# Altium integrated library Altera APEX 20KE.IntLib: 235 symbols (part 7 of 49)
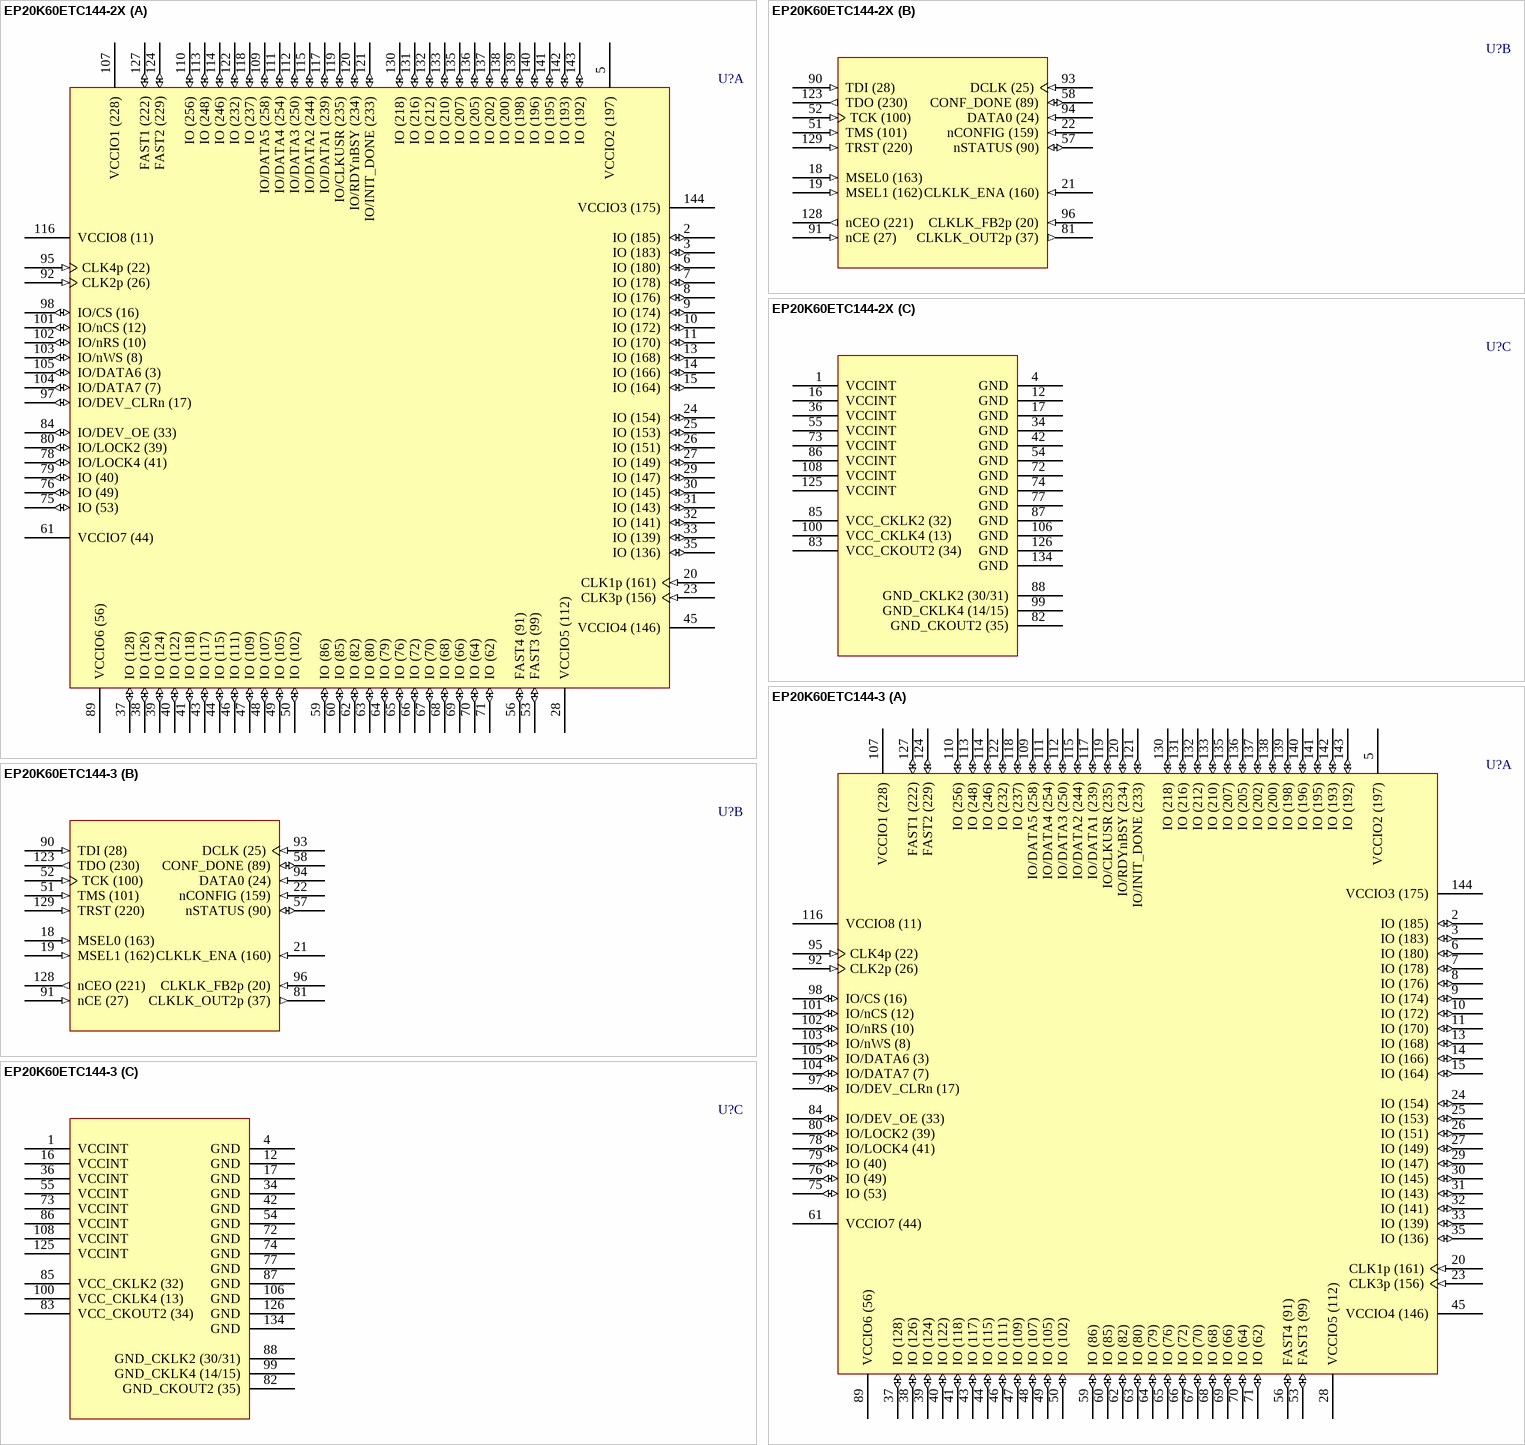
[diagram p405: symbols EP20K60ETC144-2X to EP20K60ETC144-3]

## EP20K60ETC144-3
designator U?
APEX 20K60E PLD, 144-Pin TQFP, Commercial Grade, Speed Grade 3; Published: 17-Jul-2002; LatestRevisionDate: 13-Apr-2006; LatestRevisionNote: IPC-7351 Footprint Added.; DatasheetVersion: Mar-2004; PackageVersion: ver15.4, Dec-2008; PackageReference: TQFP144; Publisher: Altium Limited; PackageDescription: 144-Pin Plastic Thin Quad Flat Pack (TQFP144) - Wire Bond; Supplier 1: Farnell; Supplier Part Number 1: 1570011; Code_JEDEC: MS-026-BFB; ComponentLink1Description: Manufacturer Link; ComponentLink1URL: http://www.altera.com/products/devices/apex/apx-index.html; ComponentLink2Description: Datasheet; ComponentLink2URL: http://www.altera.com/literature/ds/apex.pdf
footprint TQFP144_N (Thin QFP, 144-Leads, Body 20x20mm, Pitch 0.5mm, IPC Medium Density)
footprint TQFP144_L (Thin QFP, 144-Leads, Body 20x20mm, Pitch 0.5mm, IPC High Density)
footprint TQFP144_M (Thin QFP, 144-Leads, Body 20x20mm, Pitch 0.5mm, IPC Low Density)
3D model EP20K60E-TQFP144 (144-Pin Plastic Thin Quad Flat Pack (TQFP144) - Wire Bond)
part A pins: 2 IO (185) (io), 3 IO (183) (io), 5 VCCIO2 (197) (power), 6 IO (180) (io), 7 IO (178) (io), 8 IO (176) (io), 9 IO (174) (io), 10 IO (172) (io), 11 IO (170) (io), 13 IO (168) (io), 14 IO (166) (io), 15 IO (164) (io), 20 CLK1p (161) (in), 23 CLK3p (156) (in), 24 IO (154) (io), 25 IO (153) (io), 26 IO (151) (io), 27 IO (149) (io), 28 VCCIO5 (112) (power), 29 IO (147) (io), 30 IO (145) (io), 31 IO (143) (io), 32 IO (141) (io), 33 IO (139) (io), 35 IO (136) (io), 37 IO (128) (io), 38 IO (126) (io), 39 IO (124) (io), 40 IO (122) (io), 41 IO (118) (io), 43 IO (117) (io), 44 IO (115) (io), 45 VCCIO4 (146) (power), 46 IO (111) (io), 47 IO (109) (io), 48 IO (107) (io), 49 IO (105) (io), 50 IO (102) (io), 53 FAST3 (99) (io), 56 FAST4 (91) (io), 59 IO (86) (io), 60 IO (85) (io), 61 VCCIO7 (44) (power), 62 IO (82) (io), 63 IO (80) (io), 64 IO (79) (io), 65 IO (76) (io), 66 IO (72) (io), 67 IO (70) (io), 68 IO (68) (io), 69 IO (66) (io), 70 IO (64) (io), 71 IO (62) (io), 75 IO (53) (io), 76 IO (49) (io), 78 IO/LOCK4 (41) (io), 79 IO (40) (io), 80 IO/LOCK2 (39) (io), 84 IO/DEV_OE (33) (io), 89 VCCIO6 (56) (power), 92 CLK2p (26) (in), 95 CLK4p (22) (in), 97 IO/DEV_CLRn (17) (io), 98 IO/CS (16) (io), 101 IO/nCS (12) (io), 102 IO/nRS (10) (io), 103 IO/nWS (8) (io), 104 IO/DATA7 (7) (io), 105 IO/DATA6 (3) (io), 107 VCCIO1 (228) (power), 109 IO/DATA5 (258) (io), 110 IO (256) (io), 111 IO/DATA4 (254) (io), 112 IO/DATA3 (250) (io), 113 IO (248) (io), 114 IO (246) (io), 115 IO/DATA2 (244) (io), 116 VCCIO8 (11) (power), 117 IO/DATA1 (239) (io), 118 IO (237) (io), 119 IO/CLKUSR (235) (io), 120 IO/RDYnBSY (234) (io), 121 IO/INIT_DONE (233) (io), 122 IO (232) (io), 124 FAST2 (229) (io), 127 FAST1 (222) (io), 130 IO (218) (io), 131 IO (216) (io), 132 IO (212) (io), 133 IO (210) (io), 135 IO (207) (io), 136 IO (205) (io), 137 IO (202) (io), 138 IO (200) (io), 139 IO (198) (io), 140 IO (196) (io), 141 IO (195) (io), 142 IO (193) (io), 143 IO (192) (io), 144 VCCIO3 (175) (power)
part B pins: 18 MSEL0 (163) (in), 19 MSEL1 (162) (in), 21 CLKLK_ENA (160) (in), 22 nCONFIG (159) (in), 51 TMS (101) (in), 52 TCK (100) (in), 57 nSTATUS (90) (io), 58 CONF_DONE (89) (io), 81 CLKLK_OUT2p (37) (out), 90 TDI (28) (in), 91 nCE (27) (in), 93 DCLK (25) (in), 94 DATA0 (24) (in), 96 CLKLK_FB2p (20) (in), 123 TDO (230) (out), 128 nCEO (221) (out), 129 TRST (220) (in)
part C pins: 1 VCCINT (power), 4 GND (power), 12 GND (power), 16 VCCINT (power), 17 GND (power), 34 GND (power), 36 VCCINT (power), 42 GND (power), 54 GND (power), 55 VCCINT (power), 72 GND (power), 73 VCCINT (power), 74 GND (power), 77 GND (power), 82 GND_CKOUT2 (35) (power), 83 VCC_CKOUT2 (34) (power), 85 VCC_CKLK2 (32) (power), 86 VCCINT (power), 87 GND (power), 88 GND_CKLK2 (30/31) (power), 99 GND_CKLK4 (14/15) (power), 100 VCC_CKLK4 (13) (power), 106 GND (power), 108 VCCINT (power), 125 VCCINT (power), 126 GND (power), 134 GND (power)

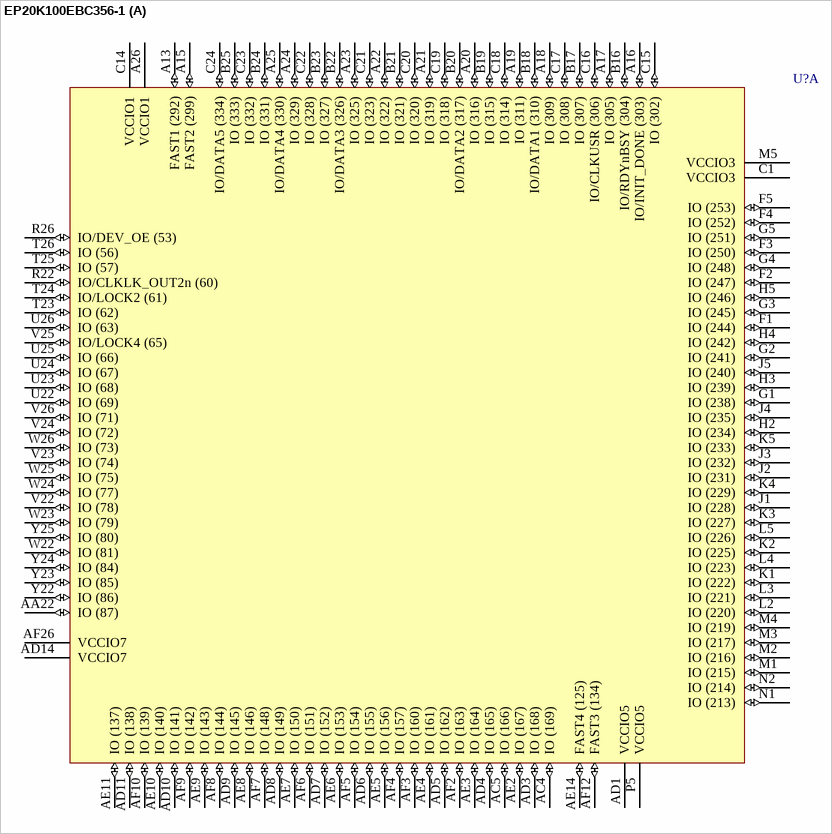
[diagram p66: symbol EP20K100EBC356-1]

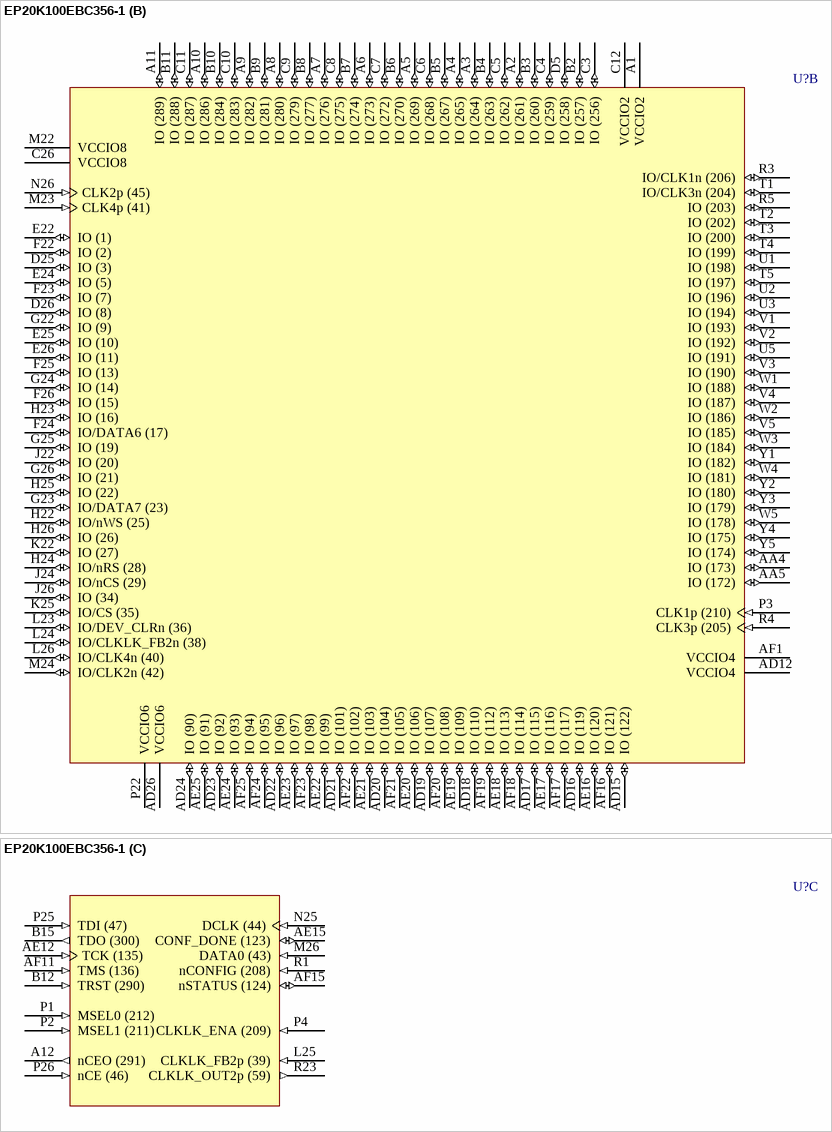
[diagram p67: symbol EP20K100EBC356-1]

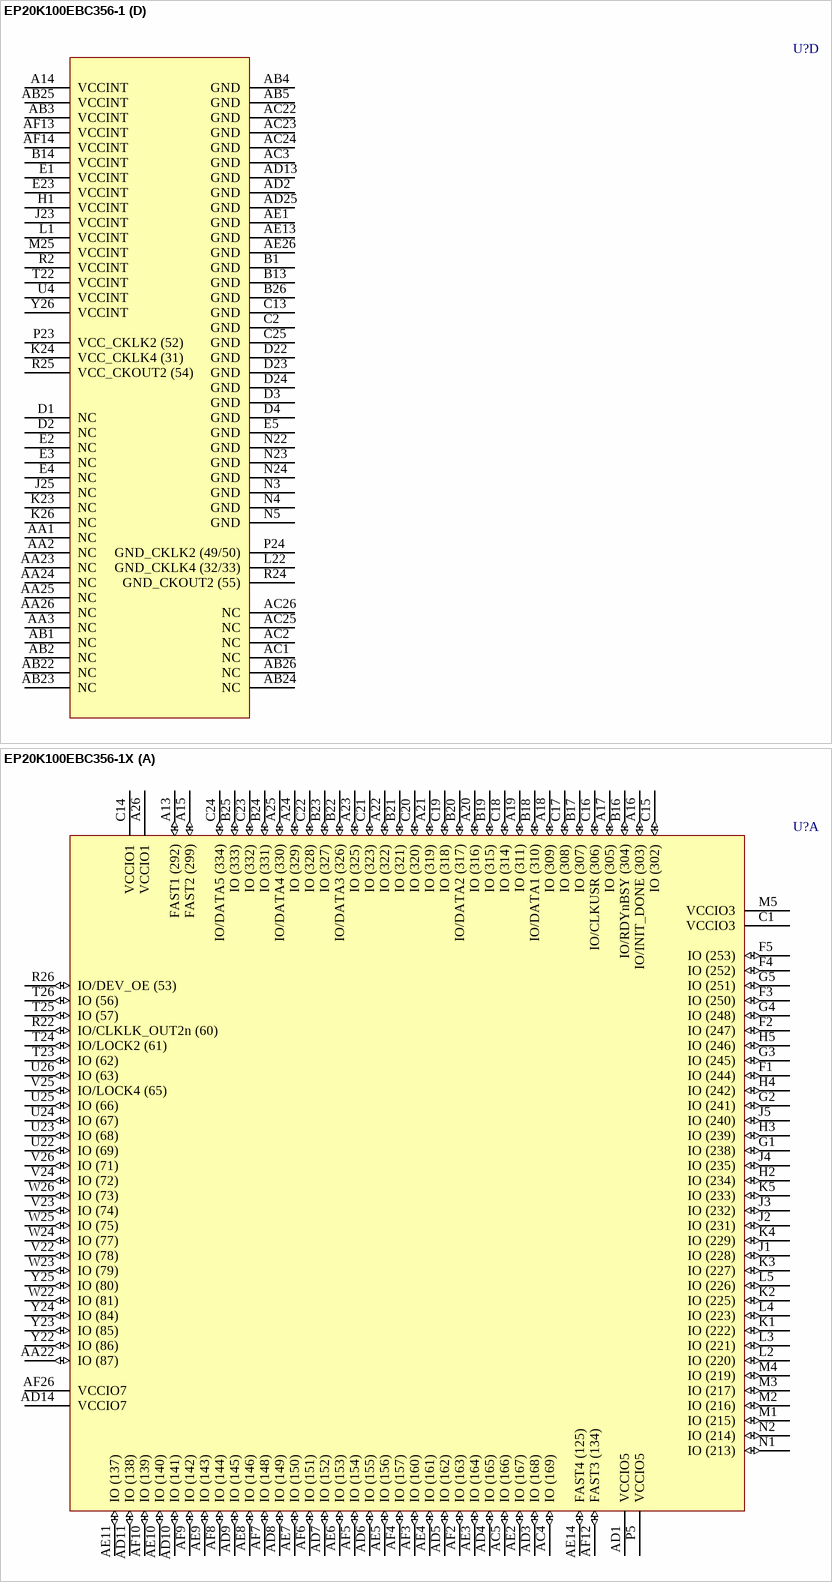
[diagram p68: symbols EP20K100EBC356-1 to EP20K100EBC356-1X]

## EP20K100EBC356-1
designator U?
APEX 20K100E PLD, 356-Pin BGA, Commercial Grade, Speed Grade 1; Published: 17-Jul-2002; LatestRevisionDate: 13-Apr-2006; LatestRevisionNote: IPC-7351 Footprint Added.; DatasheetVersion: Mar-2004; PackageVersion: ver14.2, Oct-2005; PackageReference: BGA356; Publisher: Altium Limited; PackageDescription: 356-Ball Ball Grid Array (BGA356); Code_JEDEC: MO-192-BAR-2; ComponentLink1Description: Manufacturer Link; ComponentLink1URL: http://www.altera.com/products/devices/apex/apx-index.html; ComponentLink2Description: Datasheet; ComponentLink2URL: http://www.altera.com/literature/ds/apex.pdf
footprint BGA356 (BGA, 356-Leads, Body 35x35mm, Pitch 1.27mm)
3D model EP20K100E-BGA356 (356-Ball Ball Grid Array (BGA356))
part A pins: A13 FAST1 (292) (io), A15 FAST2 (299) (io), A16 IO/INIT_DONE (303) (io), A17 IO (305) (io), A18 IO (309) (io), A19 IO (311) (io), A20 IO (316) (io), A21 IO (319) (io), A22 IO (322) (io), A23 IO (325) (io), A24 IO (329) (io), A25 IO/DATA4 (330) (io), A26 VCCIO1 (power), AA22 IO (87) (io), AC4 IO (169) (io), AC5 IO (166) (io), AD1 VCCIO5 (power), AD3 IO (168) (io), AD4 IO (165) (io), AD5 IO (162) (io), AD6 IO (155) (io), AD7 IO (152) (io), AD8 IO (149) (io), AD9 IO (145) (io), AD10 IO (141) (io), AD11 IO (138) (io), AD14 VCCIO7 (power), AE2 IO (167) (io), AE3 IO (164) (io), AE4 IO (161) (io), AE5 IO (156) (io), AE6 IO (153) (io), AE7 IO (150) (io), AE8 IO (146) (io), AE9 IO (143) (io), AE10 IO (140) (io), AE11 IO (137) (io), AE14 FAST4 (125) (io), AF2 IO (163) (io), AF3 IO (160) (io), AF4 IO (157) (io), AF5 IO (154) (io), AF6 IO (151) (io), AF7 IO (148) (io), AF8 IO (144) (io), AF9 IO (142) (io), AF10 IO (139) (io), AF12 FAST3 (134) (io), AF26 VCCIO7 (power), B16 IO/RDYnBSY (304) (io), B17 IO (307) (io), B18 IO/DATA1 (310) (io), B19 IO (315) (io), B20 IO/DATA2 (317) (io), B21 IO (321) (io), B22 IO/DATA3 (326) (io), B23 IO (327) (io), B24 IO (331) (io), B25 IO (333) (io), C1 VCCIO3 (power), C14 VCCIO1 (power), C15 IO (302) (io), C16 IO/CLKUSR (306) (io), C17 IO (308) (io), C18 IO (314) (io), C19 IO (318) (io), C20 IO (320) (io), C21 IO (323) (io), C22 IO (328) (io), C23 IO (332) (io), C24 IO/DATA5 (334) (io), F1 IO (244) (io), F2 IO (247) (io), F3 IO (250) (io), F4 IO (252) (io), F5 IO (253) (io), G1 IO (238) (io), G2 IO (241) (io), G3 IO (245) (io), G4 IO (248) (io), G5 IO (251) (io), H2 IO (234) (io), H3 IO (239) (io), H4 IO (242) (io), H5 IO (246) (io), J1 IO (228) (io), J2 IO (231) (io), J3 IO (232) (io), J4 IO (235) (io), J5 IO (240) (io), K1 IO (222) (io), K2 IO (225) (io), K3 IO (227) (io), K4 IO (229) (io), K5 IO (233) (io), L2 IO (220) (io), L3 IO (221) (io), L4 IO (223) (io), L5 IO (226) (io), M1 IO (215) (io), M2 IO (216) (io), M3 IO (217) (io), M4 IO (219) (io), M5 VCCIO3 (power), N1 IO (213) (io), N2 IO (214) (io), P5 VCCIO5 (power), R22 IO/CLKLK_OUT2n (60) (io), R26 IO/DEV_OE (53) (io), T23 IO (62) (io), T24 IO/LOCK2 (61) (io), T25 IO (57) (io), T26 IO (56) (io), U22 IO (69) (io), U23 IO (68) (io), U24 IO (67) (io), U25 IO (66) (io), U26 IO (63) (io), V22 IO (78) (io), V23 IO (74) (io), V24 IO (72) (io), V25 IO/LOCK4 (65) (io), V26 IO (71) (io), W22 IO (81) (io), W23 IO (79) (io), W24 IO (77) (io), W25 IO (75) (io), W26 IO (73) (io), Y22 IO (86) (io), Y23 IO (85) (io), Y24 IO (84) (io), Y25 IO (80) (io)
part B pins: A1 VCCIO2 (power), A2 IO (261) (io), A3 IO (264) (io), A4 IO (265) (io), A5 IO (269) (io), A6 IO (273) (io), A7 IO (276) (io), A8 IO (280) (io), A9 IO (282) (io), A10 IO (286) (io), A11 IO (289) (io), AA4 IO (173) (io), AA5 IO (172) (io), AD12 VCCIO4 (power), AD15 IO (122) (io), AD16 IO (119) (io), AD17 IO (115) (io), AD18 IO (110) (io), AD19 IO (107) (io), AD20 IO (104) (io), AD21 IO (101) (io), AD22 IO (96) (io), AD23 IO (92) (io), AD24 IO (90) (io), AD26 VCCIO6 (power), AE16 IO (120) (io), AE17 IO (116) (io), AE18 IO (113) (io), AE19 IO (109) (io), AE20 IO (106) (io), AE21 IO (103) (io), AE22 IO (99) (io), AE23 IO (97) (io), AE24 IO (93) (io), AE25 IO (91) (io), AF1 VCCIO4 (power), AF16 IO (121) (io), AF17 IO (117) (io), AF18 IO (114) (io), AF19 IO (112) (io), AF20 IO (108) (io), AF21 IO (105) (io), AF22 IO (102) (io), AF23 IO (98) (io), AF24 IO (95) (io), AF25 IO (94) (io), B2 IO (257) (io), B3 IO (260) (io), B4 IO (263) (io), B5 IO (267) (io), B6 IO (270) (io), B7 IO (274) (io), B8 IO (277) (io), B9 IO (281) (io), B10 IO (284) (io), B11 IO (288) (io), C3 IO (256) (io), C4 IO (259) (io), C5 IO (262) (io), C6 IO (268) (io), C7 IO (272) (io), C8 IO (275) (io), C9 IO (279) (io), C10 IO (283) (io), C11 IO (287) (io), C12 VCCIO2 (power), C26 VCCIO8 (power), D5 IO (258) (io), D25 IO (3) (io), D26 IO (8) (io), E22 IO (1) (io), E24 IO (5) (io), E25 IO (10) (io), E26 IO (11) (io), F22 IO (2) (io), F23 IO (7) (io), F24 IO/DATA6 (17) (io), F25 IO (13) (io), F26 IO (15) (io), G22 IO (9) (io), G23 IO/DATA7 (23) (io), G24 IO (14) (io), G25 IO (19) (io), G26 IO (21) (io), H22 IO/nWS (25) (io), H23 IO (16) (io), H24 IO/nRS (28) (io), H25 IO (22) (io), H26 IO (26) (io), J22 IO (20) (io), J24 IO/nCS (29) (io), J26 IO (34) (io), K22 IO (27) (io), K25 IO/CS (35) (io), L23 IO/DEV_CLRn (36) (io), L24 IO/CLKLK_FB2n (38) (io), L26 IO/CLK4n (40) (io), M22 VCCIO8 (power), M23 CLK4p (41) (in), M24 IO/CLK2n (42) (io), N26 CLK2p (45) (in), P3 CLK1p (210) (in), P22 VCCIO6 (power), R3 IO/CLK1n (206) (io), R4 CLK3p (205) (in), R5 IO (203) (io), T1 IO/CLK3n (204) (io), T2 IO (202) (io), T3 IO (200) (io), T4 IO (199) (io), T5 IO (197) (io), U1 IO (198) (io), U2 IO (196) (io), U3 IO (194) (io), U5 IO (191) (io), V1 IO (193) (io), V2 IO (192) (io), V3 IO (190) (io), V4 IO (187) (io), V5 IO (185) (io), W1 IO (188) (io), W2 IO (186) (io), W3 IO (184) (io), W4 IO (181) (io), W5 IO (178) (io), Y1 IO (182) (io), Y2 IO (180) (io), Y3 IO (179) (io), Y4 IO (175) (io), Y5 IO (174) (io)
part C pins: A12 nCEO (291) (out), AE12 TCK (135) (in), AE15 CONF_DONE (123) (io), AF11 TMS (136) (in), AF15 nSTATUS (124) (io), B12 TRST (290) (in), B15 TDO (300) (out), L25 CLKLK_FB2p (39) (in), M26 DATA0 (43) (in), N25 DCLK (44) (in), P1 MSEL0 (212) (in), P2 MSEL1 (211) (in), P4 CLKLK_ENA (209) (in), P25 TDI (47) (in), P26 nCE (46) (in), R1 nCONFIG (208) (in), R23 CLKLK_OUT2p (59) (out)
part D pins: A14 VCCINT (power), AA1 NC, AA2 NC, AA3 NC, AA23 NC, AA24 NC, AA25 NC, AA26 NC, AB1 NC, AB2 NC, AB3 VCCINT (power), AB4 GND (power), AB5 GND (power), AB22 NC, AB23 NC, AB24 NC, AB25 VCCINT (power), AB26 NC, AC1 NC, AC2 NC, AC3 GND (power), AC22 GND (power), AC23 GND (power), AC24 GND (power), AC25 NC, AC26 NC, AD2 GND (power), AD13 GND (power), AD25 GND (power), AE1 GND (power), AE13 GND (power), AE26 GND (power), AF13 VCCINT (power), AF14 VCCINT (power), B1 GND (power), B13 GND (power), B14 VCCINT (power), B26 GND (power), C2 GND (power), C13 GND (power), C25 GND (power), D1 NC, D2 NC, D3 GND (power), D4 GND (power), D22 GND (power), D23 GND (power), D24 GND (power), E1 VCCINT (power), E2 NC, E3 NC, E4 NC, E5 GND (power), E23 VCCINT (power), H1 VCCINT (power), J23 VCCINT (power), J25 NC, K23 NC, K24 VCC_CKLK4 (31) (power), K26 NC, L1 VCCINT (power), L22 GND_CKLK4 (32/33) (power), M25 VCCINT (power), N3 GND (power), N4 GND (power), N5 GND (power), N22 GND (power), N23 GND (power), N24 GND (power), P23 VCC_CKLK2 (52) (power), P24 GND_CKLK2 (49/50) (power), R2 VCCINT (power), R24 GND_CKOUT2 (55) (power), R25 VCC_CKOUT2 (54) (power), T22 VCCINT (power), U4 VCCINT (power), Y26 VCCINT (power)

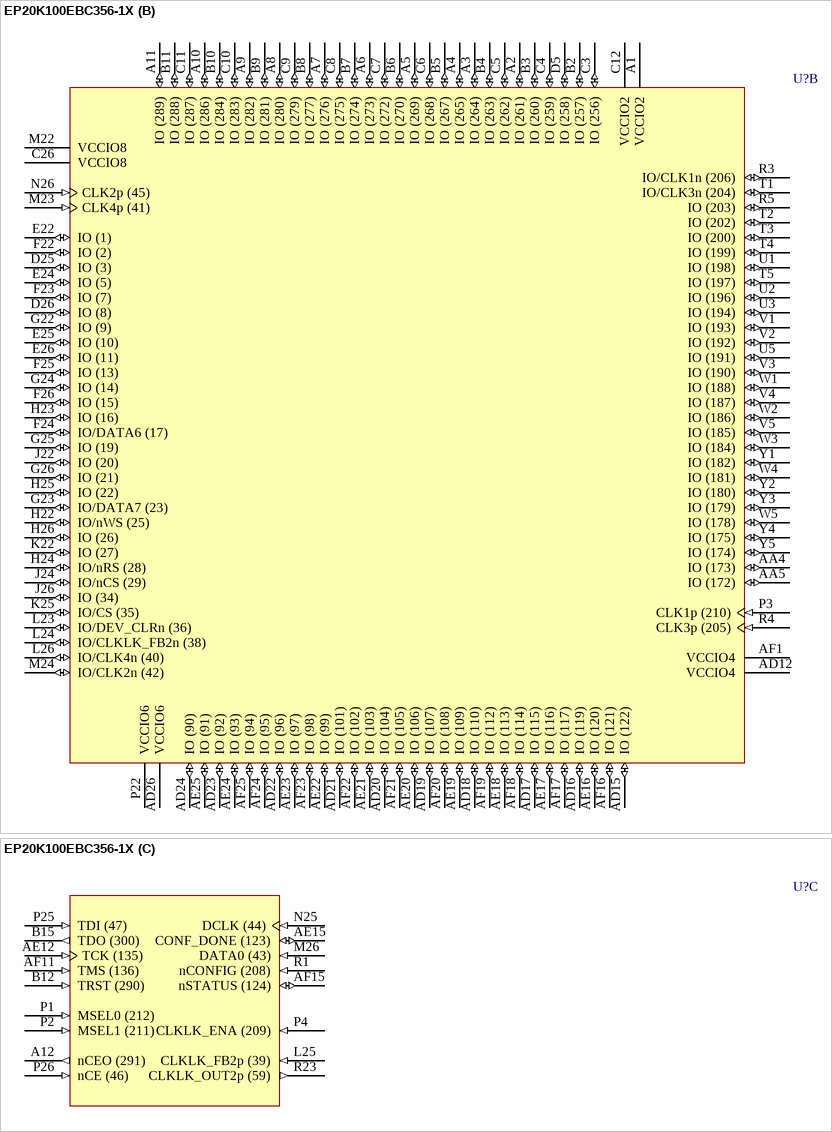
[diagram p69: symbol EP20K100EBC356-1X]

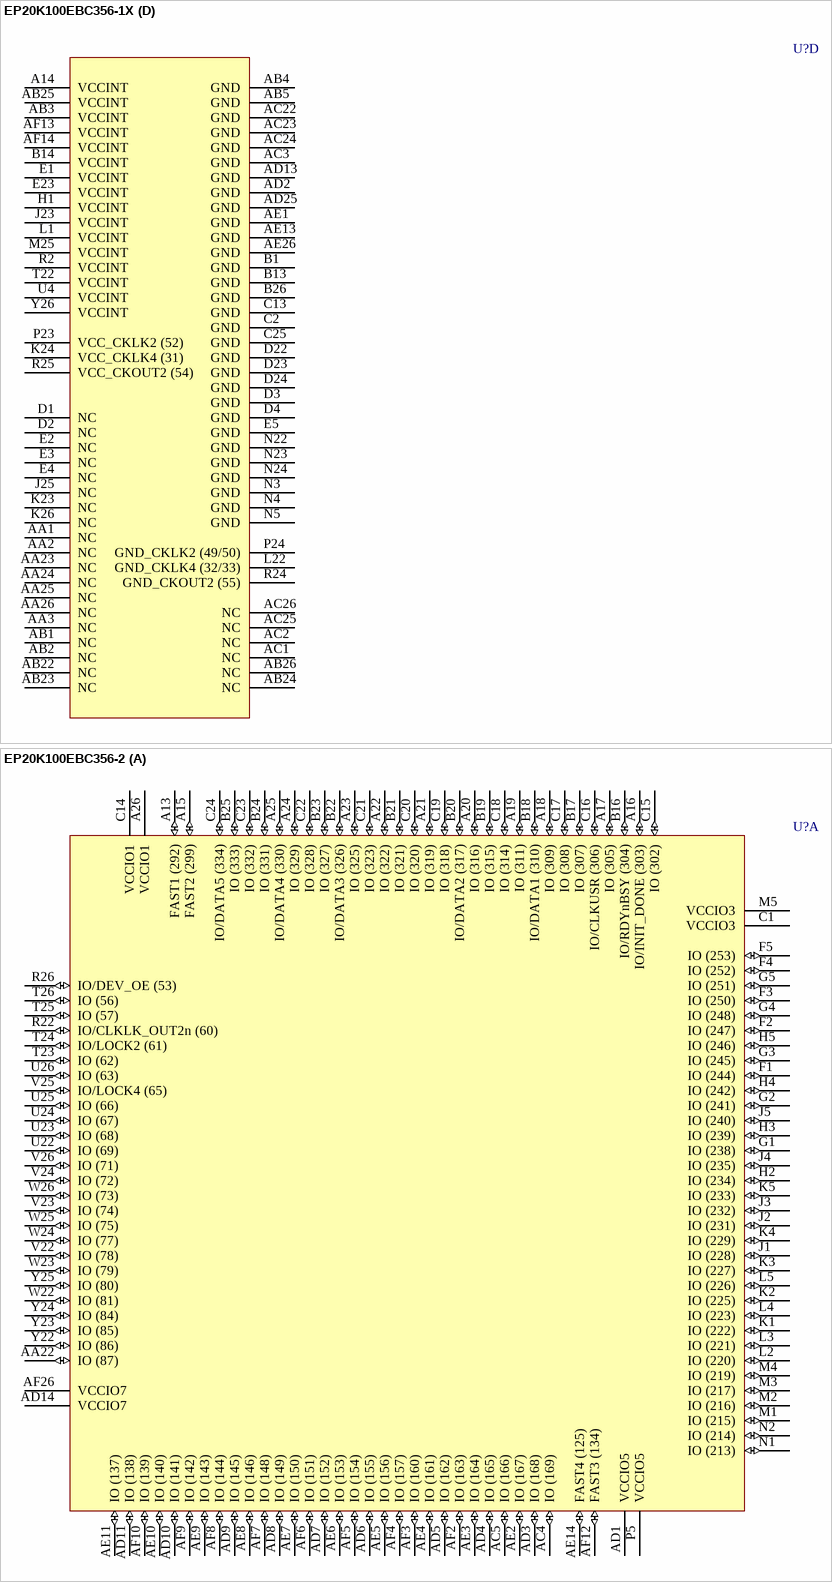
[diagram p70: symbols EP20K100EBC356-1X to EP20K100EBC356-2]

## EP20K100EBC356-1X
designator U?
APEX 20K100E PLD with PLLs and LVDS, 356-Pin BGA, Commercial Grade, Speed Grade 1; Published: 17-Jul-2002; LatestRevisionDate: 13-Apr-2006; LatestRevisionNote: IPC-7351 Footprint Added.; DatasheetVersion: Mar-2004; PackageVersion: ver14.2, Oct-2005; PackageReference: BGA356; Publisher: Altium Limited; PackageDescription: 356-Ball Ball Grid Array (BGA356); Code_JEDEC: MO-192-BAR-2; ComponentLink1Description: Manufacturer Link; ComponentLink1URL: http://www.altera.com/products/devices/apex/apx-index.html; ComponentLink2Description: Datasheet; ComponentLink2URL: http://www.altera.com/literature/ds/apex.pdf
footprint BGA356 (BGA, 356-Leads, Body 35x35mm, Pitch 1.27mm)
3D model EP20K100E-BGA356 (356-Ball Ball Grid Array (BGA356))
part A pins: A13 FAST1 (292) (io), A15 FAST2 (299) (io), A16 IO/INIT_DONE (303) (io), A17 IO (305) (io), A18 IO (309) (io), A19 IO (311) (io), A20 IO (316) (io), A21 IO (319) (io), A22 IO (322) (io), A23 IO (325) (io), A24 IO (329) (io), A25 IO/DATA4 (330) (io), A26 VCCIO1 (power), AA22 IO (87) (io), AC4 IO (169) (io), AC5 IO (166) (io), AD1 VCCIO5 (power), AD3 IO (168) (io), AD4 IO (165) (io), AD5 IO (162) (io), AD6 IO (155) (io), AD7 IO (152) (io), AD8 IO (149) (io), AD9 IO (145) (io), AD10 IO (141) (io), AD11 IO (138) (io), AD14 VCCIO7 (power), AE2 IO (167) (io), AE3 IO (164) (io), AE4 IO (161) (io), AE5 IO (156) (io), AE6 IO (153) (io), AE7 IO (150) (io), AE8 IO (146) (io), AE9 IO (143) (io), AE10 IO (140) (io), AE11 IO (137) (io), AE14 FAST4 (125) (io), AF2 IO (163) (io), AF3 IO (160) (io), AF4 IO (157) (io), AF5 IO (154) (io), AF6 IO (151) (io), AF7 IO (148) (io), AF8 IO (144) (io), AF9 IO (142) (io), AF10 IO (139) (io), AF12 FAST3 (134) (io), AF26 VCCIO7 (power), B16 IO/RDYnBSY (304) (io), B17 IO (307) (io), B18 IO/DATA1 (310) (io), B19 IO (315) (io), B20 IO/DATA2 (317) (io), B21 IO (321) (io), B22 IO/DATA3 (326) (io), B23 IO (327) (io), B24 IO (331) (io), B25 IO (333) (io), C1 VCCIO3 (power), C14 VCCIO1 (power), C15 IO (302) (io), C16 IO/CLKUSR (306) (io), C17 IO (308) (io), C18 IO (314) (io), C19 IO (318) (io), C20 IO (320) (io), C21 IO (323) (io), C22 IO (328) (io), C23 IO (332) (io), C24 IO/DATA5 (334) (io), F1 IO (244) (io), F2 IO (247) (io), F3 IO (250) (io), F4 IO (252) (io), F5 IO (253) (io), G1 IO (238) (io), G2 IO (241) (io), G3 IO (245) (io), G4 IO (248) (io), G5 IO (251) (io), H2 IO (234) (io), H3 IO (239) (io), H4 IO (242) (io), H5 IO (246) (io), J1 IO (228) (io), J2 IO (231) (io), J3 IO (232) (io), J4 IO (235) (io), J5 IO (240) (io), K1 IO (222) (io), K2 IO (225) (io), K3 IO (227) (io), K4 IO (229) (io), K5 IO (233) (io), L2 IO (220) (io), L3 IO (221) (io), L4 IO (223) (io), L5 IO (226) (io), M1 IO (215) (io), M2 IO (216) (io), M3 IO (217) (io), M4 IO (219) (io), M5 VCCIO3 (power), N1 IO (213) (io), N2 IO (214) (io), P5 VCCIO5 (power), R22 IO/CLKLK_OUT2n (60) (io), R26 IO/DEV_OE (53) (io), T23 IO (62) (io), T24 IO/LOCK2 (61) (io), T25 IO (57) (io), T26 IO (56) (io), U22 IO (69) (io), U23 IO (68) (io), U24 IO (67) (io), U25 IO (66) (io), U26 IO (63) (io), V22 IO (78) (io), V23 IO (74) (io), V24 IO (72) (io), V25 IO/LOCK4 (65) (io), V26 IO (71) (io), W22 IO (81) (io), W23 IO (79) (io), W24 IO (77) (io), W25 IO (75) (io), W26 IO (73) (io), Y22 IO (86) (io), Y23 IO (85) (io), Y24 IO (84) (io), Y25 IO (80) (io)
part B pins: A1 VCCIO2 (power), A2 IO (261) (io), A3 IO (264) (io), A4 IO (265) (io), A5 IO (269) (io), A6 IO (273) (io), A7 IO (276) (io), A8 IO (280) (io), A9 IO (282) (io), A10 IO (286) (io), A11 IO (289) (io), AA4 IO (173) (io), AA5 IO (172) (io), AD12 VCCIO4 (power), AD15 IO (122) (io), AD16 IO (119) (io), AD17 IO (115) (io), AD18 IO (110) (io), AD19 IO (107) (io), AD20 IO (104) (io), AD21 IO (101) (io), AD22 IO (96) (io), AD23 IO (92) (io), AD24 IO (90) (io), AD26 VCCIO6 (power), AE16 IO (120) (io), AE17 IO (116) (io), AE18 IO (113) (io), AE19 IO (109) (io), AE20 IO (106) (io), AE21 IO (103) (io), AE22 IO (99) (io), AE23 IO (97) (io), AE24 IO (93) (io), AE25 IO (91) (io), AF1 VCCIO4 (power), AF16 IO (121) (io), AF17 IO (117) (io), AF18 IO (114) (io), AF19 IO (112) (io), AF20 IO (108) (io), AF21 IO (105) (io), AF22 IO (102) (io), AF23 IO (98) (io), AF24 IO (95) (io), AF25 IO (94) (io), B2 IO (257) (io), B3 IO (260) (io), B4 IO (263) (io), B5 IO (267) (io), B6 IO (270) (io), B7 IO (274) (io), B8 IO (277) (io), B9 IO (281) (io), B10 IO (284) (io), B11 IO (288) (io), C3 IO (256) (io), C4 IO (259) (io), C5 IO (262) (io), C6 IO (268) (io), C7 IO (272) (io), C8 IO (275) (io), C9 IO (279) (io), C10 IO (283) (io), C11 IO (287) (io), C12 VCCIO2 (power), C26 VCCIO8 (power), D5 IO (258) (io), D25 IO (3) (io), D26 IO (8) (io), E22 IO (1) (io), E24 IO (5) (io), E25 IO (10) (io), E26 IO (11) (io), F22 IO (2) (io), F23 IO (7) (io), F24 IO/DATA6 (17) (io), F25 IO (13) (io), F26 IO (15) (io), G22 IO (9) (io), G23 IO/DATA7 (23) (io), G24 IO (14) (io), G25 IO (19) (io), G26 IO (21) (io), H22 IO/nWS (25) (io), H23 IO (16) (io), H24 IO/nRS (28) (io), H25 IO (22) (io), H26 IO (26) (io), J22 IO (20) (io), J24 IO/nCS (29) (io), J26 IO (34) (io), K22 IO (27) (io), K25 IO/CS (35) (io), L23 IO/DEV_CLRn (36) (io), L24 IO/CLKLK_FB2n (38) (io), L26 IO/CLK4n (40) (io), M22 VCCIO8 (power), M23 CLK4p (41) (in), M24 IO/CLK2n (42) (io), N26 CLK2p (45) (in), P3 CLK1p (210) (in), P22 VCCIO6 (power), R3 IO/CLK1n (206) (io), R4 CLK3p (205) (in), R5 IO (203) (io), T1 IO/CLK3n (204) (io), T2 IO (202) (io), T3 IO (200) (io), T4 IO (199) (io), T5 IO (197) (io), U1 IO (198) (io), U2 IO (196) (io), U3 IO (194) (io), U5 IO (191) (io), V1 IO (193) (io), V2 IO (192) (io), V3 IO (190) (io), V4 IO (187) (io), V5 IO (185) (io), W1 IO (188) (io), W2 IO (186) (io), W3 IO (184) (io), W4 IO (181) (io), W5 IO (178) (io), Y1 IO (182) (io), Y2 IO (180) (io), Y3 IO (179) (io), Y4 IO (175) (io), Y5 IO (174) (io)
part C pins: A12 nCEO (291) (out), AE12 TCK (135) (in), AE15 CONF_DONE (123) (io), AF11 TMS (136) (in), AF15 nSTATUS (124) (io), B12 TRST (290) (in), B15 TDO (300) (out), L25 CLKLK_FB2p (39) (in), M26 DATA0 (43) (in), N25 DCLK (44) (in), P1 MSEL0 (212) (in), P2 MSEL1 (211) (in), P4 CLKLK_ENA (209) (in), P25 TDI (47) (in), P26 nCE (46) (in), R1 nCONFIG (208) (in), R23 CLKLK_OUT2p (59) (out)
part D pins: A14 VCCINT (power), AA1 NC, AA2 NC, AA3 NC, AA23 NC, AA24 NC, AA25 NC, AA26 NC, AB1 NC, AB2 NC, AB3 VCCINT (power), AB4 GND (power), AB5 GND (power), AB22 NC, AB23 NC, AB24 NC, AB25 VCCINT (power), AB26 NC, AC1 NC, AC2 NC, AC3 GND (power), AC22 GND (power), AC23 GND (power), AC24 GND (power), AC25 NC, AC26 NC, AD2 GND (power), AD13 GND (power), AD25 GND (power), AE1 GND (power), AE13 GND (power), AE26 GND (power), AF13 VCCINT (power), AF14 VCCINT (power), B1 GND (power), B13 GND (power), B14 VCCINT (power), B26 GND (power), C2 GND (power), C13 GND (power), C25 GND (power), D1 NC, D2 NC, D3 GND (power), D4 GND (power), D22 GND (power), D23 GND (power), D24 GND (power), E1 VCCINT (power), E2 NC, E3 NC, E4 NC, E5 GND (power), E23 VCCINT (power), H1 VCCINT (power), J23 VCCINT (power), J25 NC, K23 NC, K24 VCC_CKLK4 (31) (power), K26 NC, L1 VCCINT (power), L22 GND_CKLK4 (32/33) (power), M25 VCCINT (power), N3 GND (power), N4 GND (power), N5 GND (power), N22 GND (power), N23 GND (power), N24 GND (power), P23 VCC_CKLK2 (52) (power), P24 GND_CKLK2 (49/50) (power), R2 VCCINT (power), R24 GND_CKOUT2 (55) (power), R25 VCC_CKOUT2 (54) (power), T22 VCCINT (power), U4 VCCINT (power), Y26 VCCINT (power)

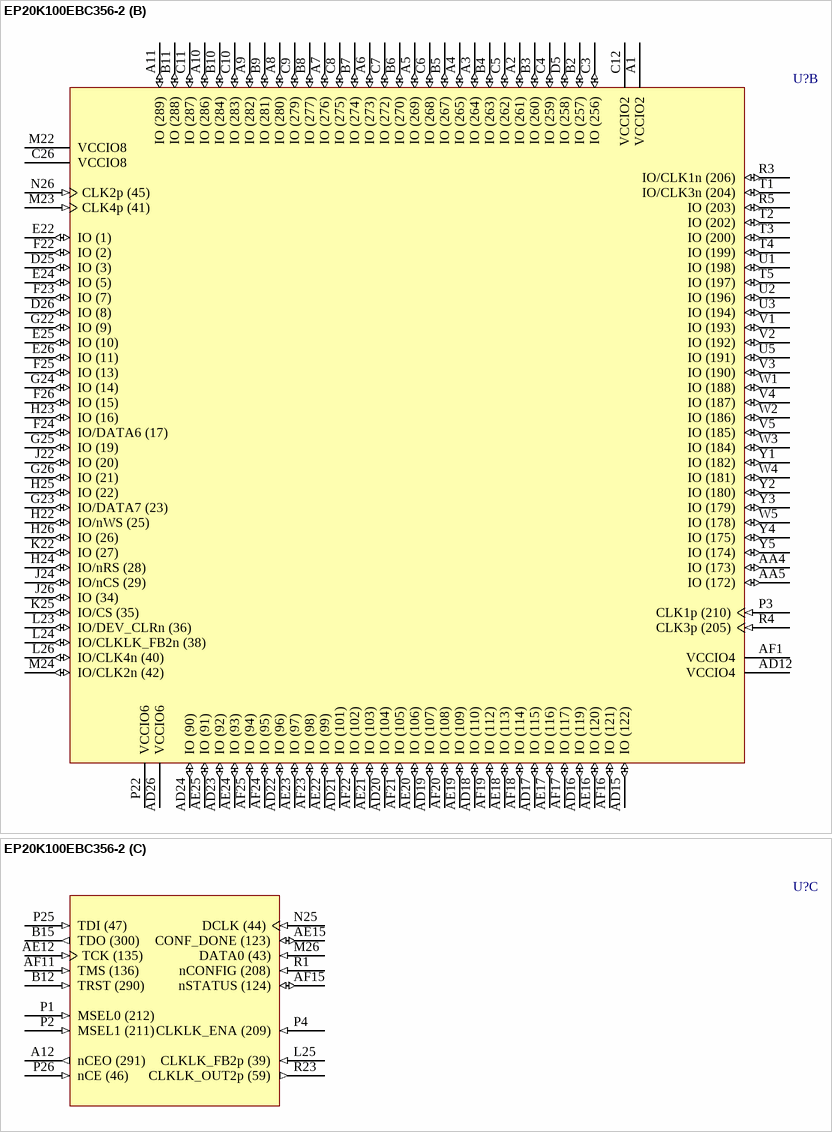
[diagram p71: symbol EP20K100EBC356-2]

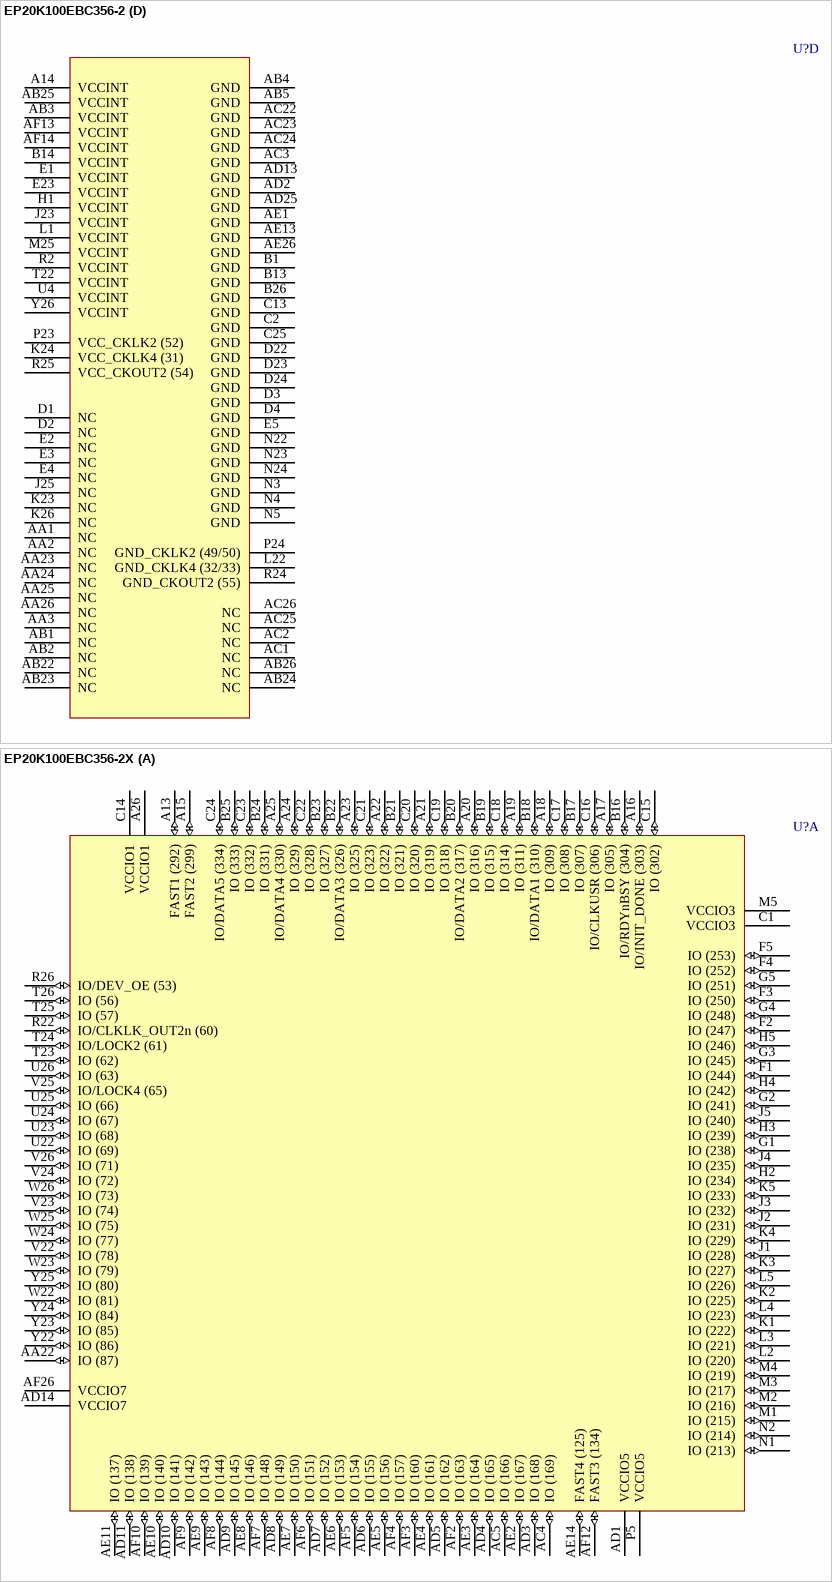
[diagram p72: symbols EP20K100EBC356-2 to EP20K100EBC356-2X]

## EP20K100EBC356-2
designator U?
APEX 20K100E PLD, 356-Pin BGA, Commercial Grade, Speed Grade 2; Published: 17-Jul-2002; LatestRevisionDate: 13-Apr-2006; LatestRevisionNote: IPC-7351 Footprint Added.; DatasheetVersion: Mar-2004; PackageVersion: ver14.2, Oct-2005; PackageReference: BGA356; Publisher: Altium Limited; PackageDescription: 356-Ball Ball Grid Array (BGA356); Supplier 1: Digi-Key; Supplier Part Number 1: EP20K100EBC356-2-ND; Code_JEDEC: MO-192-BAR-2; ComponentLink1Description: Manufacturer Link; ComponentLink1URL: http://www.altera.com/products/devices/apex/apx-index.html; ComponentLink2Description: Datasheet; ComponentLink2URL: http://www.altera.com/literature/ds/apex.pdf
footprint BGA356 (BGA, 356-Leads, Body 35x35mm, Pitch 1.27mm)
3D model EP20K100E-BGA356 (356-Ball Ball Grid Array (BGA356))
part A pins: A13 FAST1 (292) (io), A15 FAST2 (299) (io), A16 IO/INIT_DONE (303) (io), A17 IO (305) (io), A18 IO (309) (io), A19 IO (311) (io), A20 IO (316) (io), A21 IO (319) (io), A22 IO (322) (io), A23 IO (325) (io), A24 IO (329) (io), A25 IO/DATA4 (330) (io), A26 VCCIO1 (power), AA22 IO (87) (io), AC4 IO (169) (io), AC5 IO (166) (io), AD1 VCCIO5 (power), AD3 IO (168) (io), AD4 IO (165) (io), AD5 IO (162) (io), AD6 IO (155) (io), AD7 IO (152) (io), AD8 IO (149) (io), AD9 IO (145) (io), AD10 IO (141) (io), AD11 IO (138) (io), AD14 VCCIO7 (power), AE2 IO (167) (io), AE3 IO (164) (io), AE4 IO (161) (io), AE5 IO (156) (io), AE6 IO (153) (io), AE7 IO (150) (io), AE8 IO (146) (io), AE9 IO (143) (io), AE10 IO (140) (io), AE11 IO (137) (io), AE14 FAST4 (125) (io), AF2 IO (163) (io), AF3 IO (160) (io), AF4 IO (157) (io), AF5 IO (154) (io), AF6 IO (151) (io), AF7 IO (148) (io), AF8 IO (144) (io), AF9 IO (142) (io), AF10 IO (139) (io), AF12 FAST3 (134) (io), AF26 VCCIO7 (power), B16 IO/RDYnBSY (304) (io), B17 IO (307) (io), B18 IO/DATA1 (310) (io), B19 IO (315) (io), B20 IO/DATA2 (317) (io), B21 IO (321) (io), B22 IO/DATA3 (326) (io), B23 IO (327) (io), B24 IO (331) (io), B25 IO (333) (io), C1 VCCIO3 (power), C14 VCCIO1 (power), C15 IO (302) (io), C16 IO/CLKUSR (306) (io), C17 IO (308) (io), C18 IO (314) (io), C19 IO (318) (io), C20 IO (320) (io), C21 IO (323) (io), C22 IO (328) (io), C23 IO (332) (io), C24 IO/DATA5 (334) (io), F1 IO (244) (io), F2 IO (247) (io), F3 IO (250) (io), F4 IO (252) (io), F5 IO (253) (io), G1 IO (238) (io), G2 IO (241) (io), G3 IO (245) (io), G4 IO (248) (io), G5 IO (251) (io), H2 IO (234) (io), H3 IO (239) (io), H4 IO (242) (io), H5 IO (246) (io), J1 IO (228) (io), J2 IO (231) (io), J3 IO (232) (io), J4 IO (235) (io), J5 IO (240) (io), K1 IO (222) (io), K2 IO (225) (io), K3 IO (227) (io), K4 IO (229) (io), K5 IO (233) (io), L2 IO (220) (io), L3 IO (221) (io), L4 IO (223) (io), L5 IO (226) (io), M1 IO (215) (io), M2 IO (216) (io), M3 IO (217) (io), M4 IO (219) (io), M5 VCCIO3 (power), N1 IO (213) (io), N2 IO (214) (io), P5 VCCIO5 (power), R22 IO/CLKLK_OUT2n (60) (io), R26 IO/DEV_OE (53) (io), T23 IO (62) (io), T24 IO/LOCK2 (61) (io), T25 IO (57) (io), T26 IO (56) (io), U22 IO (69) (io), U23 IO (68) (io), U24 IO (67) (io), U25 IO (66) (io), U26 IO (63) (io), V22 IO (78) (io), V23 IO (74) (io), V24 IO (72) (io), V25 IO/LOCK4 (65) (io), V26 IO (71) (io), W22 IO (81) (io), W23 IO (79) (io), W24 IO (77) (io), W25 IO (75) (io), W26 IO (73) (io), Y22 IO (86) (io), Y23 IO (85) (io), Y24 IO (84) (io), Y25 IO (80) (io)
part B pins: A1 VCCIO2 (power), A2 IO (261) (io), A3 IO (264) (io), A4 IO (265) (io), A5 IO (269) (io), A6 IO (273) (io), A7 IO (276) (io), A8 IO (280) (io), A9 IO (282) (io), A10 IO (286) (io), A11 IO (289) (io), AA4 IO (173) (io), AA5 IO (172) (io), AD12 VCCIO4 (power), AD15 IO (122) (io), AD16 IO (119) (io), AD17 IO (115) (io), AD18 IO (110) (io), AD19 IO (107) (io), AD20 IO (104) (io), AD21 IO (101) (io), AD22 IO (96) (io), AD23 IO (92) (io), AD24 IO (90) (io), AD26 VCCIO6 (power), AE16 IO (120) (io), AE17 IO (116) (io), AE18 IO (113) (io), AE19 IO (109) (io), AE20 IO (106) (io), AE21 IO (103) (io), AE22 IO (99) (io), AE23 IO (97) (io), AE24 IO (93) (io), AE25 IO (91) (io), AF1 VCCIO4 (power), AF16 IO (121) (io), AF17 IO (117) (io), AF18 IO (114) (io), AF19 IO (112) (io), AF20 IO (108) (io), AF21 IO (105) (io), AF22 IO (102) (io), AF23 IO (98) (io), AF24 IO (95) (io), AF25 IO (94) (io), B2 IO (257) (io), B3 IO (260) (io), B4 IO (263) (io), B5 IO (267) (io), B6 IO (270) (io), B7 IO (274) (io), B8 IO (277) (io), B9 IO (281) (io), B10 IO (284) (io), B11 IO (288) (io), C3 IO (256) (io), C4 IO (259) (io), C5 IO (262) (io), C6 IO (268) (io), C7 IO (272) (io), C8 IO (275) (io), C9 IO (279) (io), C10 IO (283) (io), C11 IO (287) (io), C12 VCCIO2 (power), C26 VCCIO8 (power), D5 IO (258) (io), D25 IO (3) (io), D26 IO (8) (io), E22 IO (1) (io), E24 IO (5) (io), E25 IO (10) (io), E26 IO (11) (io), F22 IO (2) (io), F23 IO (7) (io), F24 IO/DATA6 (17) (io), F25 IO (13) (io), F26 IO (15) (io), G22 IO (9) (io), G23 IO/DATA7 (23) (io), G24 IO (14) (io), G25 IO (19) (io), G26 IO (21) (io), H22 IO/nWS (25) (io), H23 IO (16) (io), H24 IO/nRS (28) (io), H25 IO (22) (io), H26 IO (26) (io), J22 IO (20) (io), J24 IO/nCS (29) (io), J26 IO (34) (io), K22 IO (27) (io), K25 IO/CS (35) (io), L23 IO/DEV_CLRn (36) (io), L24 IO/CLKLK_FB2n (38) (io), L26 IO/CLK4n (40) (io), M22 VCCIO8 (power), M23 CLK4p (41) (in), M24 IO/CLK2n (42) (io), N26 CLK2p (45) (in), P3 CLK1p (210) (in), P22 VCCIO6 (power), R3 IO/CLK1n (206) (io), R4 CLK3p (205) (in), R5 IO (203) (io), T1 IO/CLK3n (204) (io), T2 IO (202) (io), T3 IO (200) (io), T4 IO (199) (io), T5 IO (197) (io), U1 IO (198) (io), U2 IO (196) (io), U3 IO (194) (io), U5 IO (191) (io), V1 IO (193) (io), V2 IO (192) (io), V3 IO (190) (io), V4 IO (187) (io), V5 IO (185) (io), W1 IO (188) (io), W2 IO (186) (io), W3 IO (184) (io), W4 IO (181) (io), W5 IO (178) (io), Y1 IO (182) (io), Y2 IO (180) (io), Y3 IO (179) (io), Y4 IO (175) (io), Y5 IO (174) (io)
part C pins: A12 nCEO (291) (out), AE12 TCK (135) (in), AE15 CONF_DONE (123) (io), AF11 TMS (136) (in), AF15 nSTATUS (124) (io), B12 TRST (290) (in), B15 TDO (300) (out), L25 CLKLK_FB2p (39) (in), M26 DATA0 (43) (in), N25 DCLK (44) (in), P1 MSEL0 (212) (in), P2 MSEL1 (211) (in), P4 CLKLK_ENA (209) (in), P25 TDI (47) (in), P26 nCE (46) (in), R1 nCONFIG (208) (in), R23 CLKLK_OUT2p (59) (out)
part D pins: A14 VCCINT (power), AA1 NC, AA2 NC, AA3 NC, AA23 NC, AA24 NC, AA25 NC, AA26 NC, AB1 NC, AB2 NC, AB3 VCCINT (power), AB4 GND (power), AB5 GND (power), AB22 NC, AB23 NC, AB24 NC, AB25 VCCINT (power), AB26 NC, AC1 NC, AC2 NC, AC3 GND (power), AC22 GND (power), AC23 GND (power), AC24 GND (power), AC25 NC, AC26 NC, AD2 GND (power), AD13 GND (power), AD25 GND (power), AE1 GND (power), AE13 GND (power), AE26 GND (power), AF13 VCCINT (power), AF14 VCCINT (power), B1 GND (power), B13 GND (power), B14 VCCINT (power), B26 GND (power), C2 GND (power), C13 GND (power), C25 GND (power), D1 NC, D2 NC, D3 GND (power), D4 GND (power), D22 GND (power), D23 GND (power), D24 GND (power), E1 VCCINT (power), E2 NC, E3 NC, E4 NC, E5 GND (power), E23 VCCINT (power), H1 VCCINT (power), J23 VCCINT (power), J25 NC, K23 NC, K24 VCC_CKLK4 (31) (power), K26 NC, L1 VCCINT (power), L22 GND_CKLK4 (32/33) (power), M25 VCCINT (power), N3 GND (power), N4 GND (power), N5 GND (power), N22 GND (power), N23 GND (power), N24 GND (power), P23 VCC_CKLK2 (52) (power), P24 GND_CKLK2 (49/50) (power), R2 VCCINT (power), R24 GND_CKOUT2 (55) (power), R25 VCC_CKOUT2 (54) (power), T22 VCCINT (power), U4 VCCINT (power), Y26 VCCINT (power)

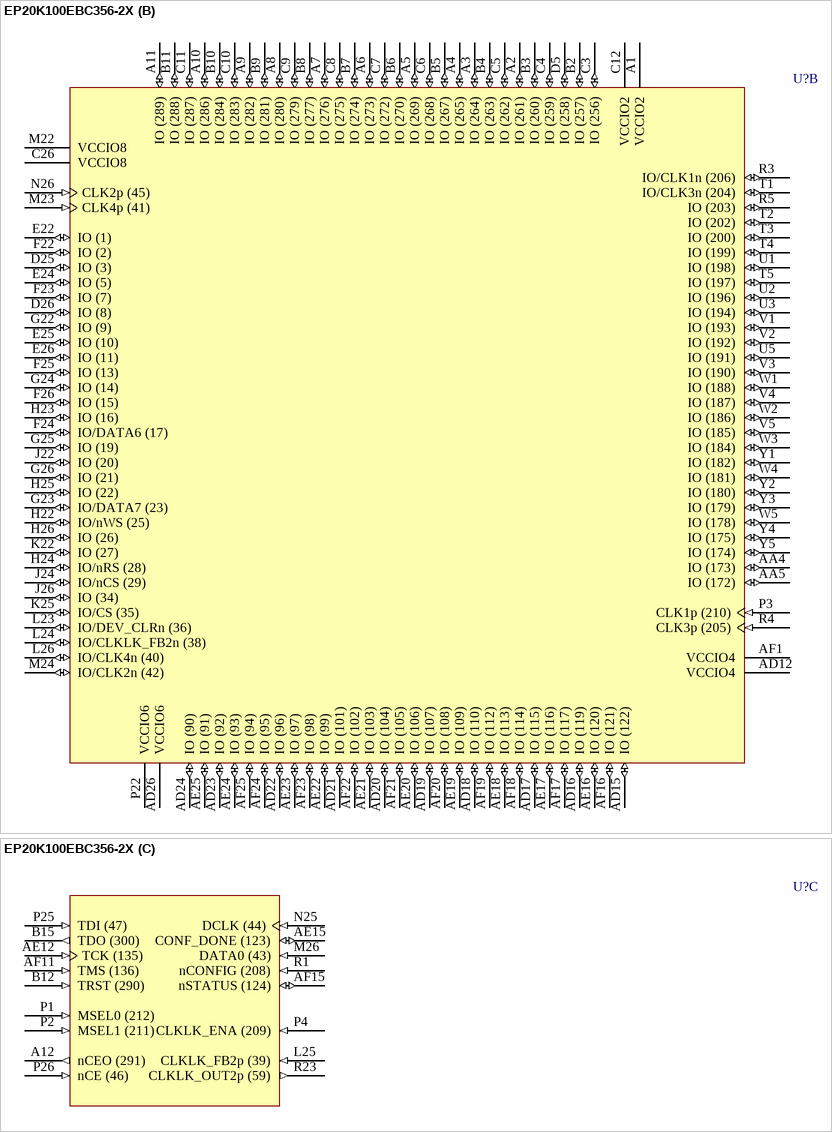
[diagram p73: symbol EP20K100EBC356-2X]

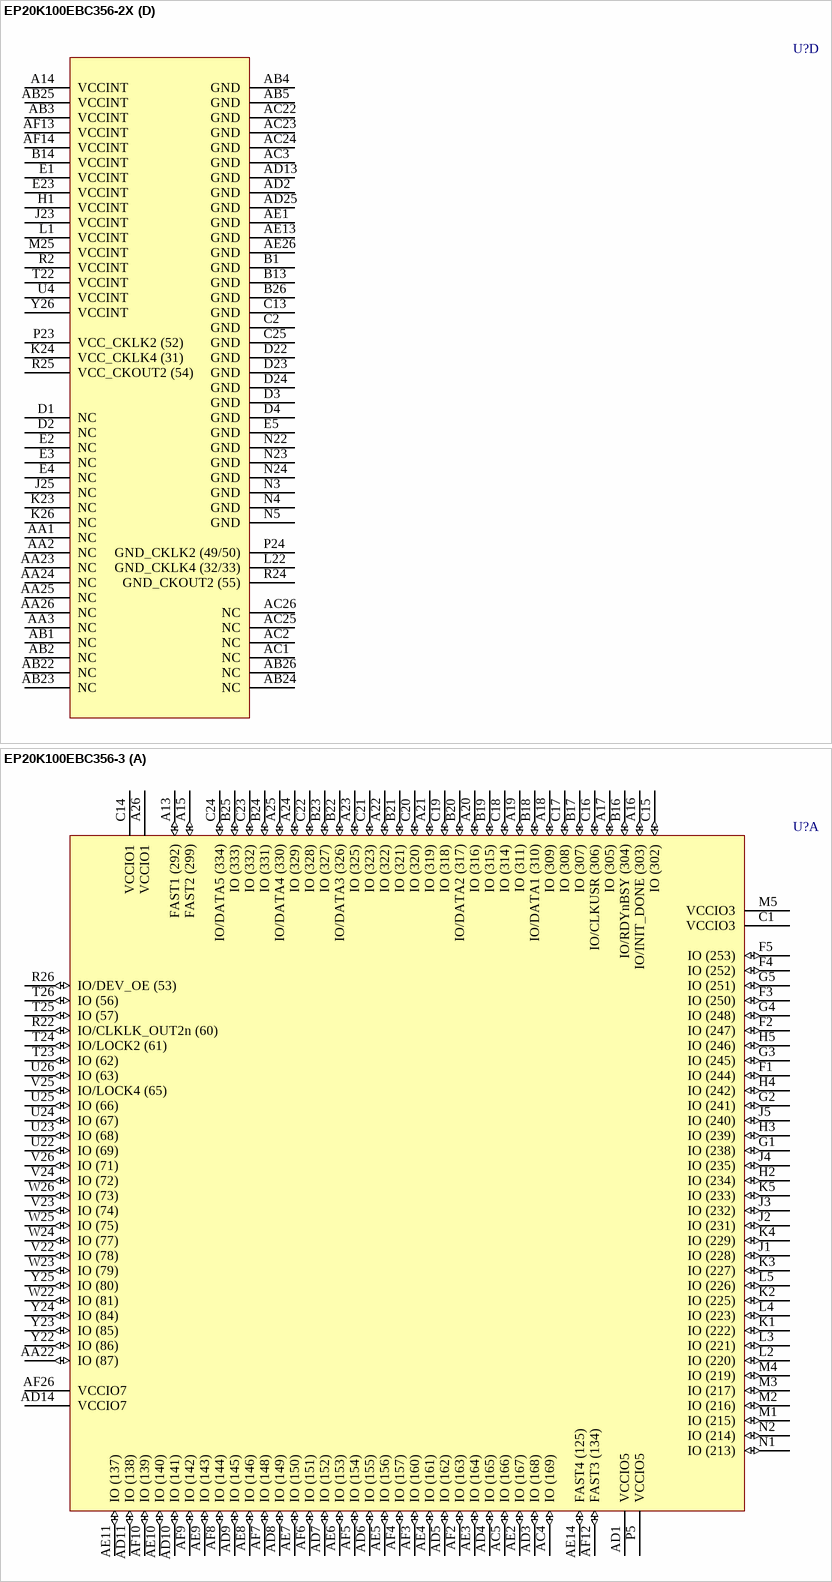
[diagram p74: symbols EP20K100EBC356-2X to EP20K100EBC356-3]

## EP20K100EBC356-2X
designator U?
APEX 20K100E PLD with PLLs and LVDS, 356-Pin BGA, Commercial Grade, Speed Grade 2; Published: 17-Jul-2002; LatestRevisionDate: 13-Apr-2006; LatestRevisionNote: IPC-7351 Footprint Added.; DatasheetVersion: Mar-2004; PackageVersion: ver14.2, Oct-2005; PackageReference: BGA356; Publisher: Altium Limited; PackageDescription: 356-Ball Ball Grid Array (BGA356); Code_JEDEC: MO-192-BAR-2; ComponentLink1Description: Manufacturer Link; ComponentLink1URL: http://www.altera.com/products/devices/apex/apx-index.html; ComponentLink2Description: Datasheet; ComponentLink2URL: http://www.altera.com/literature/ds/apex.pdf
footprint BGA356 (BGA, 356-Leads, Body 35x35mm, Pitch 1.27mm)
3D model EP20K100E-BGA356 (356-Ball Ball Grid Array (BGA356))
part A pins: A13 FAST1 (292) (io), A15 FAST2 (299) (io), A16 IO/INIT_DONE (303) (io), A17 IO (305) (io), A18 IO (309) (io), A19 IO (311) (io), A20 IO (316) (io), A21 IO (319) (io), A22 IO (322) (io), A23 IO (325) (io), A24 IO (329) (io), A25 IO/DATA4 (330) (io), A26 VCCIO1 (power), AA22 IO (87) (io), AC4 IO (169) (io), AC5 IO (166) (io), AD1 VCCIO5 (power), AD3 IO (168) (io), AD4 IO (165) (io), AD5 IO (162) (io), AD6 IO (155) (io), AD7 IO (152) (io), AD8 IO (149) (io), AD9 IO (145) (io), AD10 IO (141) (io), AD11 IO (138) (io), AD14 VCCIO7 (power), AE2 IO (167) (io), AE3 IO (164) (io), AE4 IO (161) (io), AE5 IO (156) (io), AE6 IO (153) (io), AE7 IO (150) (io), AE8 IO (146) (io), AE9 IO (143) (io), AE10 IO (140) (io), AE11 IO (137) (io), AE14 FAST4 (125) (io), AF2 IO (163) (io), AF3 IO (160) (io), AF4 IO (157) (io), AF5 IO (154) (io), AF6 IO (151) (io), AF7 IO (148) (io), AF8 IO (144) (io), AF9 IO (142) (io), AF10 IO (139) (io), AF12 FAST3 (134) (io), AF26 VCCIO7 (power), B16 IO/RDYnBSY (304) (io), B17 IO (307) (io), B18 IO/DATA1 (310) (io), B19 IO (315) (io), B20 IO/DATA2 (317) (io), B21 IO (321) (io), B22 IO/DATA3 (326) (io), B23 IO (327) (io), B24 IO (331) (io), B25 IO (333) (io), C1 VCCIO3 (power), C14 VCCIO1 (power), C15 IO (302) (io), C16 IO/CLKUSR (306) (io), C17 IO (308) (io), C18 IO (314) (io), C19 IO (318) (io), C20 IO (320) (io), C21 IO (323) (io), C22 IO (328) (io), C23 IO (332) (io), C24 IO/DATA5 (334) (io), F1 IO (244) (io), F2 IO (247) (io), F3 IO (250) (io), F4 IO (252) (io), F5 IO (253) (io), G1 IO (238) (io), G2 IO (241) (io), G3 IO (245) (io), G4 IO (248) (io), G5 IO (251) (io), H2 IO (234) (io), H3 IO (239) (io), H4 IO (242) (io), H5 IO (246) (io), J1 IO (228) (io), J2 IO (231) (io), J3 IO (232) (io), J4 IO (235) (io), J5 IO (240) (io), K1 IO (222) (io), K2 IO (225) (io), K3 IO (227) (io), K4 IO (229) (io), K5 IO (233) (io), L2 IO (220) (io), L3 IO (221) (io), L4 IO (223) (io), L5 IO (226) (io), M1 IO (215) (io), M2 IO (216) (io), M3 IO (217) (io), M4 IO (219) (io), M5 VCCIO3 (power), N1 IO (213) (io), N2 IO (214) (io), P5 VCCIO5 (power), R22 IO/CLKLK_OUT2n (60) (io), R26 IO/DEV_OE (53) (io), T23 IO (62) (io), T24 IO/LOCK2 (61) (io), T25 IO (57) (io), T26 IO (56) (io), U22 IO (69) (io), U23 IO (68) (io), U24 IO (67) (io), U25 IO (66) (io), U26 IO (63) (io), V22 IO (78) (io), V23 IO (74) (io), V24 IO (72) (io), V25 IO/LOCK4 (65) (io), V26 IO (71) (io), W22 IO (81) (io), W23 IO (79) (io), W24 IO (77) (io), W25 IO (75) (io), W26 IO (73) (io), Y22 IO (86) (io), Y23 IO (85) (io), Y24 IO (84) (io), Y25 IO (80) (io)
part B pins: A1 VCCIO2 (power), A2 IO (261) (io), A3 IO (264) (io), A4 IO (265) (io), A5 IO (269) (io), A6 IO (273) (io), A7 IO (276) (io), A8 IO (280) (io), A9 IO (282) (io), A10 IO (286) (io), A11 IO (289) (io), AA4 IO (173) (io), AA5 IO (172) (io), AD12 VCCIO4 (power), AD15 IO (122) (io), AD16 IO (119) (io), AD17 IO (115) (io), AD18 IO (110) (io), AD19 IO (107) (io), AD20 IO (104) (io), AD21 IO (101) (io), AD22 IO (96) (io), AD23 IO (92) (io), AD24 IO (90) (io), AD26 VCCIO6 (power), AE16 IO (120) (io), AE17 IO (116) (io), AE18 IO (113) (io), AE19 IO (109) (io), AE20 IO (106) (io), AE21 IO (103) (io), AE22 IO (99) (io), AE23 IO (97) (io), AE24 IO (93) (io), AE25 IO (91) (io), AF1 VCCIO4 (power), AF16 IO (121) (io), AF17 IO (117) (io), AF18 IO (114) (io), AF19 IO (112) (io), AF20 IO (108) (io), AF21 IO (105) (io), AF22 IO (102) (io), AF23 IO (98) (io), AF24 IO (95) (io), AF25 IO (94) (io), B2 IO (257) (io), B3 IO (260) (io), B4 IO (263) (io), B5 IO (267) (io), B6 IO (270) (io), B7 IO (274) (io), B8 IO (277) (io), B9 IO (281) (io), B10 IO (284) (io), B11 IO (288) (io), C3 IO (256) (io), C4 IO (259) (io), C5 IO (262) (io), C6 IO (268) (io), C7 IO (272) (io), C8 IO (275) (io), C9 IO (279) (io), C10 IO (283) (io), C11 IO (287) (io), C12 VCCIO2 (power), C26 VCCIO8 (power), D5 IO (258) (io), D25 IO (3) (io), D26 IO (8) (io), E22 IO (1) (io), E24 IO (5) (io), E25 IO (10) (io), E26 IO (11) (io), F22 IO (2) (io), F23 IO (7) (io), F24 IO/DATA6 (17) (io), F25 IO (13) (io), F26 IO (15) (io), G22 IO (9) (io), G23 IO/DATA7 (23) (io), G24 IO (14) (io), G25 IO (19) (io), G26 IO (21) (io), H22 IO/nWS (25) (io), H23 IO (16) (io), H24 IO/nRS (28) (io), H25 IO (22) (io), H26 IO (26) (io), J22 IO (20) (io), J24 IO/nCS (29) (io), J26 IO (34) (io), K22 IO (27) (io), K25 IO/CS (35) (io), L23 IO/DEV_CLRn (36) (io), L24 IO/CLKLK_FB2n (38) (io), L26 IO/CLK4n (40) (io), M22 VCCIO8 (power), M23 CLK4p (41) (in), M24 IO/CLK2n (42) (io), N26 CLK2p (45) (in), P3 CLK1p (210) (in), P22 VCCIO6 (power), R3 IO/CLK1n (206) (io), R4 CLK3p (205) (in), R5 IO (203) (io), T1 IO/CLK3n (204) (io), T2 IO (202) (io), T3 IO (200) (io), T4 IO (199) (io), T5 IO (197) (io), U1 IO (198) (io), U2 IO (196) (io), U3 IO (194) (io), U5 IO (191) (io), V1 IO (193) (io), V2 IO (192) (io), V3 IO (190) (io), V4 IO (187) (io), V5 IO (185) (io), W1 IO (188) (io), W2 IO (186) (io), W3 IO (184) (io), W4 IO (181) (io), W5 IO (178) (io), Y1 IO (182) (io), Y2 IO (180) (io), Y3 IO (179) (io), Y4 IO (175) (io), Y5 IO (174) (io)
part C pins: A12 nCEO (291) (out), AE12 TCK (135) (in), AE15 CONF_DONE (123) (io), AF11 TMS (136) (in), AF15 nSTATUS (124) (io), B12 TRST (290) (in), B15 TDO (300) (out), L25 CLKLK_FB2p (39) (in), M26 DATA0 (43) (in), N25 DCLK (44) (in), P1 MSEL0 (212) (in), P2 MSEL1 (211) (in), P4 CLKLK_ENA (209) (in), P25 TDI (47) (in), P26 nCE (46) (in), R1 nCONFIG (208) (in), R23 CLKLK_OUT2p (59) (out)
part D pins: A14 VCCINT (power), AA1 NC, AA2 NC, AA3 NC, AA23 NC, AA24 NC, AA25 NC, AA26 NC, AB1 NC, AB2 NC, AB3 VCCINT (power), AB4 GND (power), AB5 GND (power), AB22 NC, AB23 NC, AB24 NC, AB25 VCCINT (power), AB26 NC, AC1 NC, AC2 NC, AC3 GND (power), AC22 GND (power), AC23 GND (power), AC24 GND (power), AC25 NC, AC26 NC, AD2 GND (power), AD13 GND (power), AD25 GND (power), AE1 GND (power), AE13 GND (power), AE26 GND (power), AF13 VCCINT (power), AF14 VCCINT (power), B1 GND (power), B13 GND (power), B14 VCCINT (power), B26 GND (power), C2 GND (power), C13 GND (power), C25 GND (power), D1 NC, D2 NC, D3 GND (power), D4 GND (power), D22 GND (power), D23 GND (power), D24 GND (power), E1 VCCINT (power), E2 NC, E3 NC, E4 NC, E5 GND (power), E23 VCCINT (power), H1 VCCINT (power), J23 VCCINT (power), J25 NC, K23 NC, K24 VCC_CKLK4 (31) (power), K26 NC, L1 VCCINT (power), L22 GND_CKLK4 (32/33) (power), M25 VCCINT (power), N3 GND (power), N4 GND (power), N5 GND (power), N22 GND (power), N23 GND (power), N24 GND (power), P23 VCC_CKLK2 (52) (power), P24 GND_CKLK2 (49/50) (power), R2 VCCINT (power), R24 GND_CKOUT2 (55) (power), R25 VCC_CKOUT2 (54) (power), T22 VCCINT (power), U4 VCCINT (power), Y26 VCCINT (power)

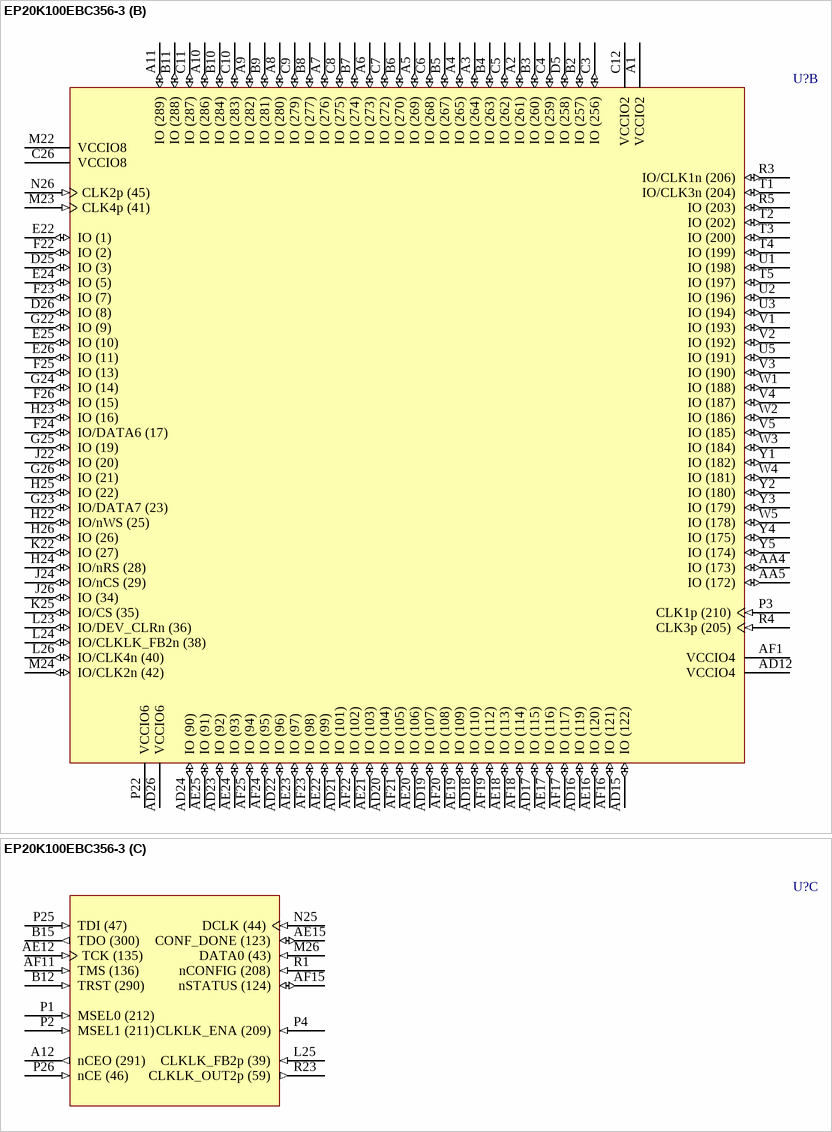
[diagram p75: symbol EP20K100EBC356-3]

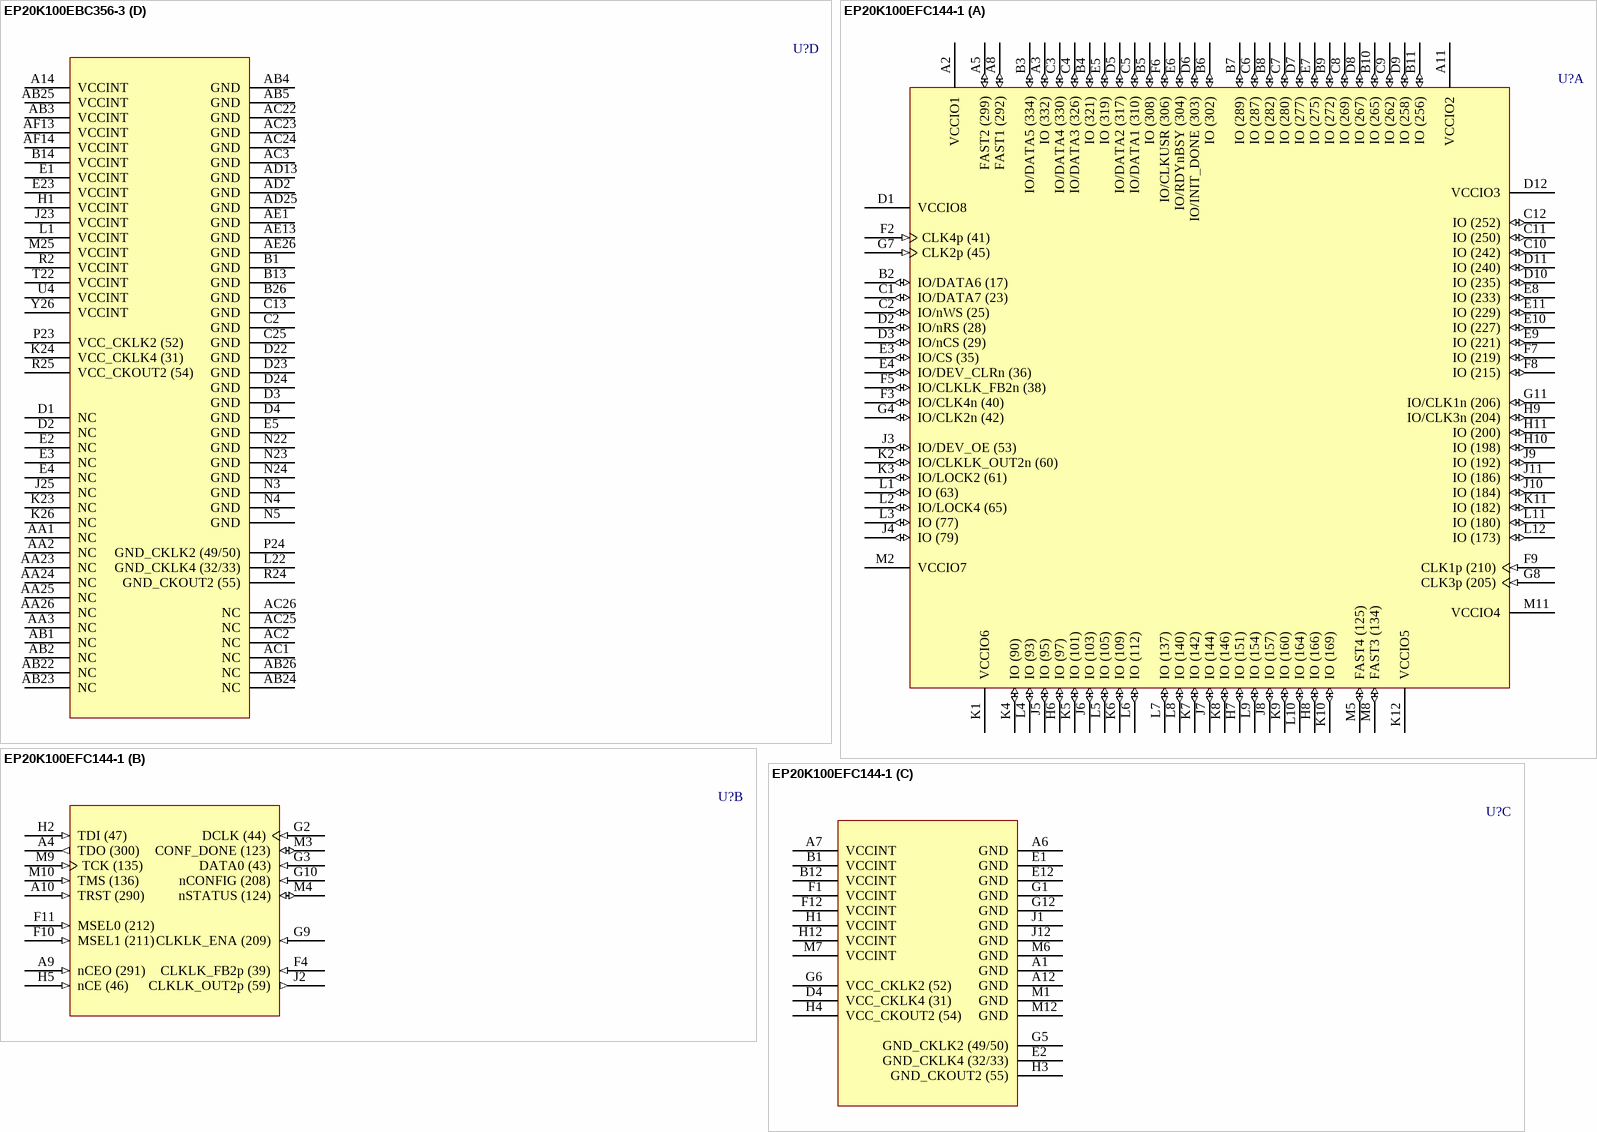
[diagram p76: symbols EP20K100EBC356-3 to EP20K100EFC144-1]

## EP20K100EBC356-3
designator U?
APEX 20K100E PLD, 356-Pin BGA, Commercial Grade, Speed Grade 3; Published: 17-Jul-2002; LatestRevisionDate: 13-Apr-2006; LatestRevisionNote: IPC-7351 Footprint Added.; DatasheetVersion: Mar-2004; PackageVersion: ver14.2, Oct-2005; PackageReference: BGA356; Publisher: Altium Limited; PackageDescription: 356-Ball Ball Grid Array (BGA356); Supplier 1: Digi-Key; Supplier Part Number 1: 544-1091-ND; Code_JEDEC: MO-192-BAR-2; ComponentLink1Description: Manufacturer Link; ComponentLink1URL: http://www.altera.com/products/devices/apex/apx-index.html; ComponentLink2Description: Datasheet; ComponentLink2URL: http://www.altera.com/literature/ds/apex.pdf
footprint BGA356 (BGA, 356-Leads, Body 35x35mm, Pitch 1.27mm)
3D model EP20K100E-BGA356 (356-Ball Ball Grid Array (BGA356))
part A pins: A13 FAST1 (292) (io), A15 FAST2 (299) (io), A16 IO/INIT_DONE (303) (io), A17 IO (305) (io), A18 IO (309) (io), A19 IO (311) (io), A20 IO (316) (io), A21 IO (319) (io), A22 IO (322) (io), A23 IO (325) (io), A24 IO (329) (io), A25 IO/DATA4 (330) (io), A26 VCCIO1 (power), AA22 IO (87) (io), AC4 IO (169) (io), AC5 IO (166) (io), AD1 VCCIO5 (power), AD3 IO (168) (io), AD4 IO (165) (io), AD5 IO (162) (io), AD6 IO (155) (io), AD7 IO (152) (io), AD8 IO (149) (io), AD9 IO (145) (io), AD10 IO (141) (io), AD11 IO (138) (io), AD14 VCCIO7 (power), AE2 IO (167) (io), AE3 IO (164) (io), AE4 IO (161) (io), AE5 IO (156) (io), AE6 IO (153) (io), AE7 IO (150) (io), AE8 IO (146) (io), AE9 IO (143) (io), AE10 IO (140) (io), AE11 IO (137) (io), AE14 FAST4 (125) (io), AF2 IO (163) (io), AF3 IO (160) (io), AF4 IO (157) (io), AF5 IO (154) (io), AF6 IO (151) (io), AF7 IO (148) (io), AF8 IO (144) (io), AF9 IO (142) (io), AF10 IO (139) (io), AF12 FAST3 (134) (io), AF26 VCCIO7 (power), B16 IO/RDYnBSY (304) (io), B17 IO (307) (io), B18 IO/DATA1 (310) (io), B19 IO (315) (io), B20 IO/DATA2 (317) (io), B21 IO (321) (io), B22 IO/DATA3 (326) (io), B23 IO (327) (io), B24 IO (331) (io), B25 IO (333) (io), C1 VCCIO3 (power), C14 VCCIO1 (power), C15 IO (302) (io), C16 IO/CLKUSR (306) (io), C17 IO (308) (io), C18 IO (314) (io), C19 IO (318) (io), C20 IO (320) (io), C21 IO (323) (io), C22 IO (328) (io), C23 IO (332) (io), C24 IO/DATA5 (334) (io), F1 IO (244) (io), F2 IO (247) (io), F3 IO (250) (io), F4 IO (252) (io), F5 IO (253) (io), G1 IO (238) (io), G2 IO (241) (io), G3 IO (245) (io), G4 IO (248) (io), G5 IO (251) (io), H2 IO (234) (io), H3 IO (239) (io), H4 IO (242) (io), H5 IO (246) (io), J1 IO (228) (io), J2 IO (231) (io), J3 IO (232) (io), J4 IO (235) (io), J5 IO (240) (io), K1 IO (222) (io), K2 IO (225) (io), K3 IO (227) (io), K4 IO (229) (io), K5 IO (233) (io), L2 IO (220) (io), L3 IO (221) (io), L4 IO (223) (io), L5 IO (226) (io), M1 IO (215) (io), M2 IO (216) (io), M3 IO (217) (io), M4 IO (219) (io), M5 VCCIO3 (power), N1 IO (213) (io), N2 IO (214) (io), P5 VCCIO5 (power), R22 IO/CLKLK_OUT2n (60) (io), R26 IO/DEV_OE (53) (io), T23 IO (62) (io), T24 IO/LOCK2 (61) (io), T25 IO (57) (io), T26 IO (56) (io), U22 IO (69) (io), U23 IO (68) (io), U24 IO (67) (io), U25 IO (66) (io), U26 IO (63) (io), V22 IO (78) (io), V23 IO (74) (io), V24 IO (72) (io), V25 IO/LOCK4 (65) (io), V26 IO (71) (io), W22 IO (81) (io), W23 IO (79) (io), W24 IO (77) (io), W25 IO (75) (io), W26 IO (73) (io), Y22 IO (86) (io), Y23 IO (85) (io), Y24 IO (84) (io), Y25 IO (80) (io)
part B pins: A1 VCCIO2 (power), A2 IO (261) (io), A3 IO (264) (io), A4 IO (265) (io), A5 IO (269) (io), A6 IO (273) (io), A7 IO (276) (io), A8 IO (280) (io), A9 IO (282) (io), A10 IO (286) (io), A11 IO (289) (io), AA4 IO (173) (io), AA5 IO (172) (io), AD12 VCCIO4 (power), AD15 IO (122) (io), AD16 IO (119) (io), AD17 IO (115) (io), AD18 IO (110) (io), AD19 IO (107) (io), AD20 IO (104) (io), AD21 IO (101) (io), AD22 IO (96) (io), AD23 IO (92) (io), AD24 IO (90) (io), AD26 VCCIO6 (power), AE16 IO (120) (io), AE17 IO (116) (io), AE18 IO (113) (io), AE19 IO (109) (io), AE20 IO (106) (io), AE21 IO (103) (io), AE22 IO (99) (io), AE23 IO (97) (io), AE24 IO (93) (io), AE25 IO (91) (io), AF1 VCCIO4 (power), AF16 IO (121) (io), AF17 IO (117) (io), AF18 IO (114) (io), AF19 IO (112) (io), AF20 IO (108) (io), AF21 IO (105) (io), AF22 IO (102) (io), AF23 IO (98) (io), AF24 IO (95) (io), AF25 IO (94) (io), B2 IO (257) (io), B3 IO (260) (io), B4 IO (263) (io), B5 IO (267) (io), B6 IO (270) (io), B7 IO (274) (io), B8 IO (277) (io), B9 IO (281) (io), B10 IO (284) (io), B11 IO (288) (io), C3 IO (256) (io), C4 IO (259) (io), C5 IO (262) (io), C6 IO (268) (io), C7 IO (272) (io), C8 IO (275) (io), C9 IO (279) (io), C10 IO (283) (io), C11 IO (287) (io), C12 VCCIO2 (power), C26 VCCIO8 (power), D5 IO (258) (io), D25 IO (3) (io), D26 IO (8) (io), E22 IO (1) (io), E24 IO (5) (io), E25 IO (10) (io), E26 IO (11) (io), F22 IO (2) (io), F23 IO (7) (io), F24 IO/DATA6 (17) (io), F25 IO (13) (io), F26 IO (15) (io), G22 IO (9) (io), G23 IO/DATA7 (23) (io), G24 IO (14) (io), G25 IO (19) (io), G26 IO (21) (io), H22 IO/nWS (25) (io), H23 IO (16) (io), H24 IO/nRS (28) (io), H25 IO (22) (io), H26 IO (26) (io), J22 IO (20) (io), J24 IO/nCS (29) (io), J26 IO (34) (io), K22 IO (27) (io), K25 IO/CS (35) (io), L23 IO/DEV_CLRn (36) (io), L24 IO/CLKLK_FB2n (38) (io), L26 IO/CLK4n (40) (io), M22 VCCIO8 (power), M23 CLK4p (41) (in), M24 IO/CLK2n (42) (io), N26 CLK2p (45) (in), P3 CLK1p (210) (in), P22 VCCIO6 (power), R3 IO/CLK1n (206) (io), R4 CLK3p (205) (in), R5 IO (203) (io), T1 IO/CLK3n (204) (io), T2 IO (202) (io), T3 IO (200) (io), T4 IO (199) (io), T5 IO (197) (io), U1 IO (198) (io), U2 IO (196) (io), U3 IO (194) (io), U5 IO (191) (io), V1 IO (193) (io), V2 IO (192) (io), V3 IO (190) (io), V4 IO (187) (io), V5 IO (185) (io), W1 IO (188) (io), W2 IO (186) (io), W3 IO (184) (io), W4 IO (181) (io), W5 IO (178) (io), Y1 IO (182) (io), Y2 IO (180) (io), Y3 IO (179) (io), Y4 IO (175) (io), Y5 IO (174) (io)
part C pins: A12 nCEO (291) (out), AE12 TCK (135) (in), AE15 CONF_DONE (123) (io), AF11 TMS (136) (in), AF15 nSTATUS (124) (io), B12 TRST (290) (in), B15 TDO (300) (out), L25 CLKLK_FB2p (39) (in), M26 DATA0 (43) (in), N25 DCLK (44) (in), P1 MSEL0 (212) (in), P2 MSEL1 (211) (in), P4 CLKLK_ENA (209) (in), P25 TDI (47) (in), P26 nCE (46) (in), R1 nCONFIG (208) (in), R23 CLKLK_OUT2p (59) (out)
part D pins: A14 VCCINT (power), AA1 NC, AA2 NC, AA3 NC, AA23 NC, AA24 NC, AA25 NC, AA26 NC, AB1 NC, AB2 NC, AB3 VCCINT (power), AB4 GND (power), AB5 GND (power), AB22 NC, AB23 NC, AB24 NC, AB25 VCCINT (power), AB26 NC, AC1 NC, AC2 NC, AC3 GND (power), AC22 GND (power), AC23 GND (power), AC24 GND (power), AC25 NC, AC26 NC, AD2 GND (power), AD13 GND (power), AD25 GND (power), AE1 GND (power), AE13 GND (power), AE26 GND (power), AF13 VCCINT (power), AF14 VCCINT (power), B1 GND (power), B13 GND (power), B14 VCCINT (power), B26 GND (power), C2 GND (power), C13 GND (power), C25 GND (power), D1 NC, D2 NC, D3 GND (power), D4 GND (power), D22 GND (power), D23 GND (power), D24 GND (power), E1 VCCINT (power), E2 NC, E3 NC, E4 NC, E5 GND (power), E23 VCCINT (power), H1 VCCINT (power), J23 VCCINT (power), J25 NC, K23 NC, K24 VCC_CKLK4 (31) (power), K26 NC, L1 VCCINT (power), L22 GND_CKLK4 (32/33) (power), M25 VCCINT (power), N3 GND (power), N4 GND (power), N5 GND (power), N22 GND (power), N23 GND (power), N24 GND (power), P23 VCC_CKLK2 (52) (power), P24 GND_CKLK2 (49/50) (power), R2 VCCINT (power), R24 GND_CKOUT2 (55) (power), R25 VCC_CKOUT2 (54) (power), T22 VCCINT (power), U4 VCCINT (power), Y26 VCCINT (power)

## EP20K100EFC144-1
designator U?
APEX 20K100E PLD, 144-Pin FBGA, Commercial Grade, Speed Grade 1; Published: 17-Jul-2002; LatestRevisionDate: 13-Apr-2006; LatestRevisionNote: IPC-7351 Footprint Added.; DatasheetVersion: Mar-2004; PackageVersion: ver15.1, May-2008; PackageReference: FBGA144; Publisher: Altium Limited; PackageDescription: 144-Ball FineLine Ball Grid Array (FBGA144) - Wire Bond; Code_JEDEC: MO-192-AAD-1; Code_IPC: BGA100P12X12-144; ComponentLink1Description: Manufacturer Link; ComponentLink1URL: http://www.altera.com/products/devices/apex/apx-index.html; ComponentLink2Description: Datasheet; ComponentLink2URL: http://www.altera.com/literature/ds/apex.pdf
footprint FBGA144 (BGA, 144-Leads, Body 13x13mm, Pitch 1mm)
3D model EP20K100E-FBGA144 (144-Ball FineLine Ball Grid Array (FBGA144) - Wire Bond)
part A pins: A2 VCCIO1 (power), A3 IO (332) (io), A5 FAST2 (299) (io), A8 FAST1 (292) (io), A11 VCCIO2 (power), B2 IO/DATA6 (17) (io), B3 IO/DATA5 (334) (io), B4 IO (321) (io), B5 IO (308) (io), B6 IO (302) (io), B7 IO (289) (io), B8 IO (282) (io), B9 IO (272) (io), B10 IO (265) (io), B11 IO (256) (io), C1 IO/DATA7 (23) (io), C2 IO/nWS (25) (io), C3 IO/DATA4 (330) (io), C4 IO/DATA3 (326) (io), C5 IO/DATA1 (310) (io), C6 IO (287) (io), C7 IO (280) (io), C8 IO (269) (io), C9 IO (262) (io), C10 IO (242) (io), C11 IO (250) (io), C12 IO (252) (io), D1 VCCIO8 (power), D2 IO/nRS (28) (io), D3 IO/nCS (29) (io), D5 IO/DATA2 (317) (io), D6 IO/INIT_DONE (303) (io), D7 IO (277) (io), D8 IO (267) (io), D9 IO (258) (io), D10 IO (235) (io), D11 IO (240) (io), D12 VCCIO3 (power), E3 IO/CS (35) (io), E4 IO/DEV_CLRn (36) (io), E5 IO (319) (io), E6 IO/RDYnBSY (304) (io), E7 IO (275) (io), E8 IO (233) (io), E9 IO (221) (io), E10 IO (227) (io), E11 IO (229) (io), F2 CLK4p (41) (in), F3 IO/CLK4n (40) (io), F5 IO/CLKLK_FB2n (38) (io), F6 IO/CLKUSR (306) (io), F7 IO (219) (io), F8 IO (215) (io), F9 CLK1p (210) (in), G4 IO/CLK2n (42) (io), G7 CLK2p (45) (in), G8 CLK3p (205) (in), G11 IO/CLK1n (206) (io), H6 IO (97) (io), H7 IO (151) (io), H8 IO (166) (io), H9 IO/CLK3n (204) (io), H10 IO (198) (io), H11 IO (200) (io), J3 IO/DEV_OE (53) (io), J4 IO (79) (io), J5 IO (95) (io), J6 IO (103) (io), J7 IO (144) (io), J8 IO (157) (io), J9 IO (192) (io), J10 IO (184) (io), J11 IO (186) (io), K1 VCCIO6 (power), K2 IO/CLKLK_OUT2n (60) (io), K3 IO/LOCK2 (61) (io), K4 IO (90) (io), K5 IO (101) (io), K6 IO (109) (io), K7 IO (142) (io), K8 IO (146) (io), K9 IO (160) (io), K10 IO (169) (io), K11 IO (182) (io), K12 VCCIO5 (power), L1 IO (63) (io), L2 IO/LOCK4 (65) (io), L3 IO (77) (io), L4 IO (93) (io), L5 IO (105) (io), L6 IO (112) (io), L7 IO (137) (io), L8 IO (140) (io), L9 IO (154) (io), L10 IO (164) (io), L11 IO (180) (io), L12 IO (173) (io), M2 VCCIO7 (power), M5 FAST4 (125) (io), M8 FAST3 (134) (io), M11 VCCIO4 (power)
part B pins: A4 TDO (300) (out), A9 nCEO (291) (in), A10 TRST (290) (in), F4 CLKLK_FB2p (39) (in), F10 MSEL1 (211) (in), F11 MSEL0 (212) (in), G2 DCLK (44) (in), G3 DATA0 (43) (in), G9 CLKLK_ENA (209) (in), G10 nCONFIG (208) (in), H2 TDI (47) (in), H5 nCE (46) (in), J2 CLKLK_OUT2p (59) (out), M3 CONF_DONE (123) (io), M4 nSTATUS (124) (io), M9 TCK (135) (in), M10 TMS (136) (in)
part C pins: A1 GND (power), A6 GND (power), A7 VCCINT (power), A12 GND (power), B1 VCCINT (power), B12 VCCINT (power), D4 VCC_CKLK4 (31) (power), E1 GND (power), E2 GND_CKLK4 (32/33) (power), E12 GND (power), F1 VCCINT (power), F12 VCCINT (power), G1 GND (power), G5 GND_CKLK2 (49/50) (power), G6 VCC_CKLK2 (52) (power), G12 GND (power), H1 VCCINT (power), H3 GND_CKOUT2 (55) (power), H4 VCC_CKOUT2 (54) (power), H12 VCCINT (power), J1 GND (power), J12 GND (power), M1 GND (power), M6 GND (power), M7 VCCINT (power), M12 GND (power)

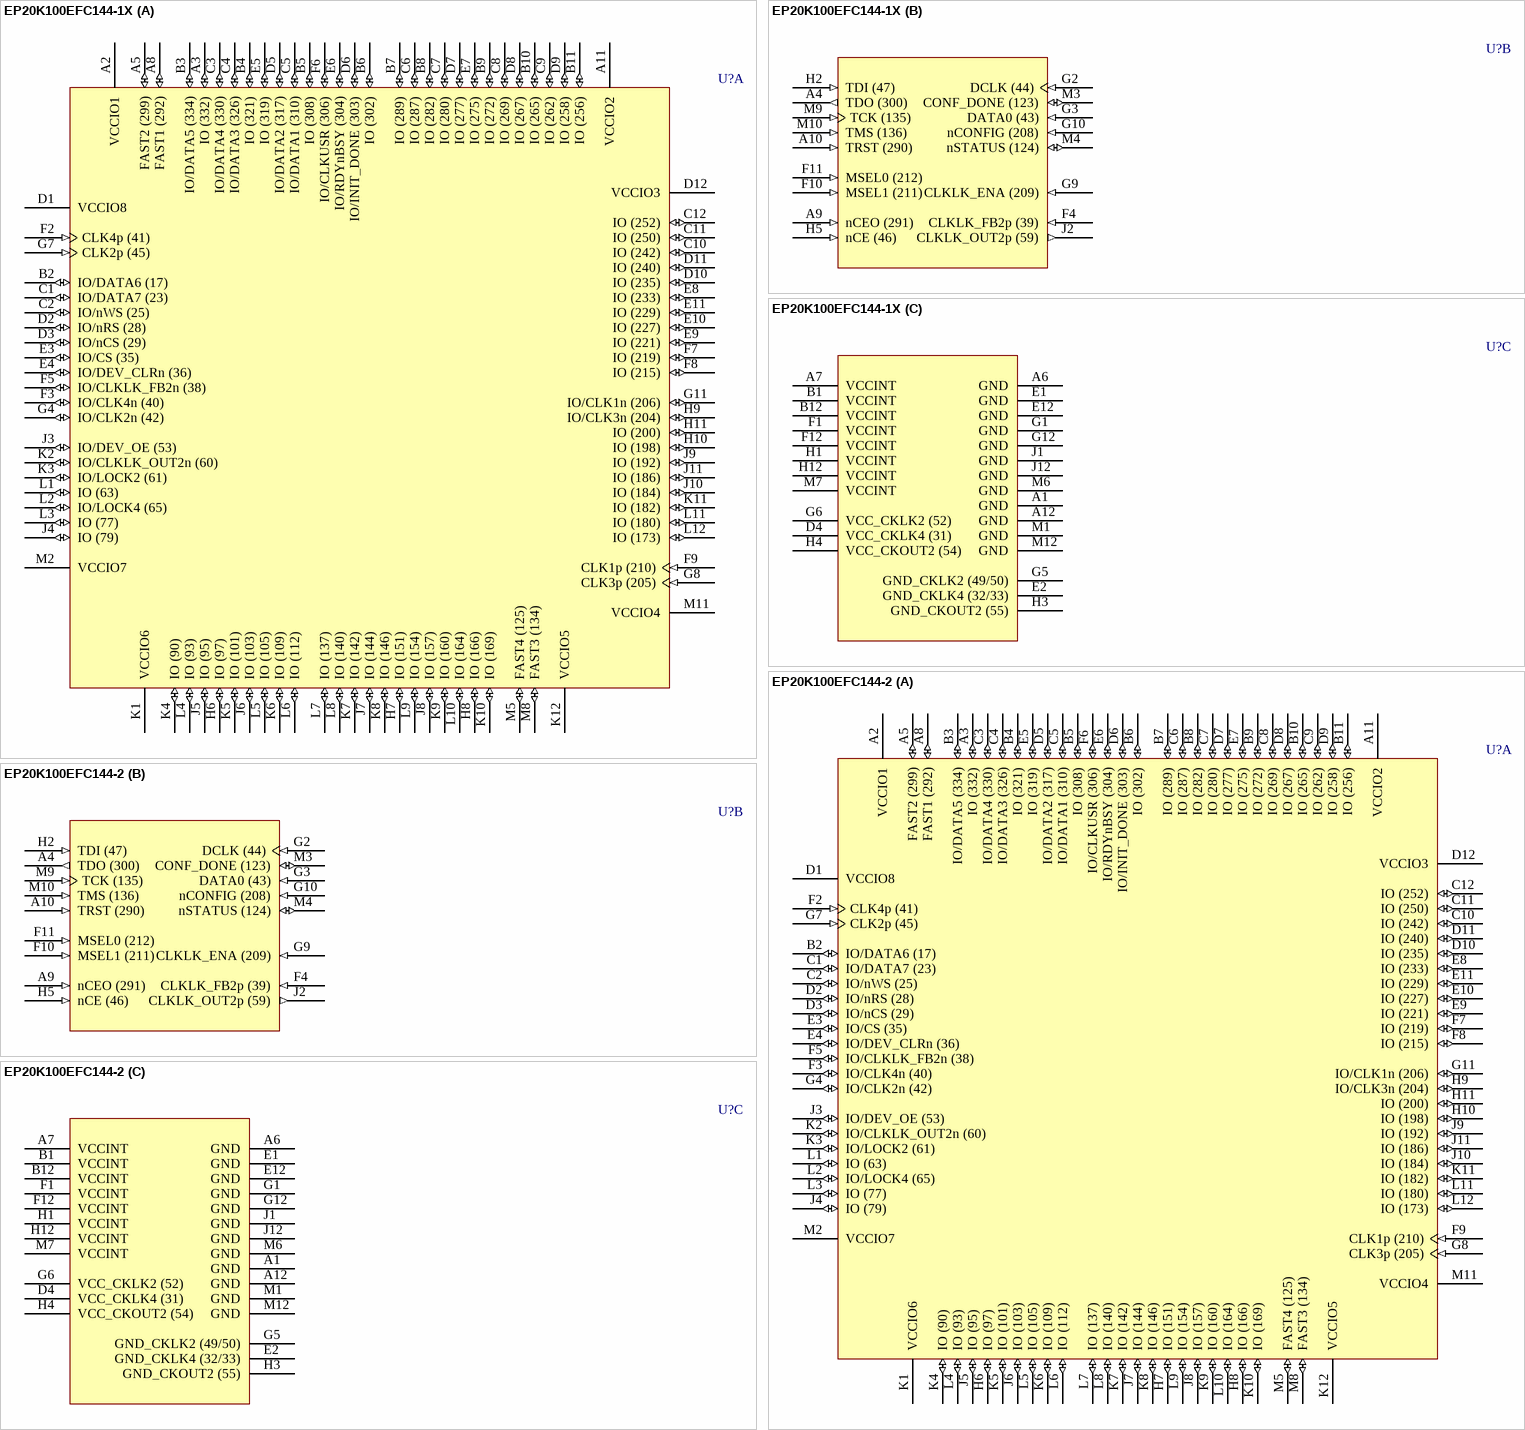
[diagram p77: symbols EP20K100EFC144-1X to EP20K100EFC144-2]

## EP20K100EFC144-1X
designator U?
APEX 20K100E PLD with PLLs and LVDS, 144-Pin FBGA, Commercial Grade, Speed Grade 1; Published: 17-Jul-2002; LatestRevisionDate: 13-Apr-2006; LatestRevisionNote: IPC-7351 Footprint Added.; DatasheetVersion: Mar-2004; PackageVersion: ver15.1, May-2008; PackageReference: FBGA144; Publisher: Altium Limited; PackageDescription: 144-Ball FineLine Ball Grid Array (FBGA144) - Wire Bond; Code_JEDEC: MO-192-AAD-1; Code_IPC: BGA100P12X12-144; ComponentLink1Description: Manufacturer Link; ComponentLink1URL: http://www.altera.com/products/devices/apex/apx-index.html; ComponentLink2Description: Datasheet; ComponentLink2URL: http://www.altera.com/literature/ds/apex.pdf
footprint FBGA144 (BGA, 144-Leads, Body 13x13mm, Pitch 1mm)
3D model EP20K100E-FBGA144 (144-Ball FineLine Ball Grid Array (FBGA144) - Wire Bond)
part A pins: A2 VCCIO1 (power), A3 IO (332) (io), A5 FAST2 (299) (io), A8 FAST1 (292) (io), A11 VCCIO2 (power), B2 IO/DATA6 (17) (io), B3 IO/DATA5 (334) (io), B4 IO (321) (io), B5 IO (308) (io), B6 IO (302) (io), B7 IO (289) (io), B8 IO (282) (io), B9 IO (272) (io), B10 IO (265) (io), B11 IO (256) (io), C1 IO/DATA7 (23) (io), C2 IO/nWS (25) (io), C3 IO/DATA4 (330) (io), C4 IO/DATA3 (326) (io), C5 IO/DATA1 (310) (io), C6 IO (287) (io), C7 IO (280) (io), C8 IO (269) (io), C9 IO (262) (io), C10 IO (242) (io), C11 IO (250) (io), C12 IO (252) (io), D1 VCCIO8 (power), D2 IO/nRS (28) (io), D3 IO/nCS (29) (io), D5 IO/DATA2 (317) (io), D6 IO/INIT_DONE (303) (io), D7 IO (277) (io), D8 IO (267) (io), D9 IO (258) (io), D10 IO (235) (io), D11 IO (240) (io), D12 VCCIO3 (power), E3 IO/CS (35) (io), E4 IO/DEV_CLRn (36) (io), E5 IO (319) (io), E6 IO/RDYnBSY (304) (io), E7 IO (275) (io), E8 IO (233) (io), E9 IO (221) (io), E10 IO (227) (io), E11 IO (229) (io), F2 CLK4p (41) (in), F3 IO/CLK4n (40) (io), F5 IO/CLKLK_FB2n (38) (io), F6 IO/CLKUSR (306) (io), F7 IO (219) (io), F8 IO (215) (io), F9 CLK1p (210) (in), G4 IO/CLK2n (42) (io), G7 CLK2p (45) (in), G8 CLK3p (205) (in), G11 IO/CLK1n (206) (io), H6 IO (97) (io), H7 IO (151) (io), H8 IO (166) (io), H9 IO/CLK3n (204) (io), H10 IO (198) (io), H11 IO (200) (io), J3 IO/DEV_OE (53) (io), J4 IO (79) (io), J5 IO (95) (io), J6 IO (103) (io), J7 IO (144) (io), J8 IO (157) (io), J9 IO (192) (io), J10 IO (184) (io), J11 IO (186) (io), K1 VCCIO6 (power), K2 IO/CLKLK_OUT2n (60) (io), K3 IO/LOCK2 (61) (io), K4 IO (90) (io), K5 IO (101) (io), K6 IO (109) (io), K7 IO (142) (io), K8 IO (146) (io), K9 IO (160) (io), K10 IO (169) (io), K11 IO (182) (io), K12 VCCIO5 (power), L1 IO (63) (io), L2 IO/LOCK4 (65) (io), L3 IO (77) (io), L4 IO (93) (io), L5 IO (105) (io), L6 IO (112) (io), L7 IO (137) (io), L8 IO (140) (io), L9 IO (154) (io), L10 IO (164) (io), L11 IO (180) (io), L12 IO (173) (io), M2 VCCIO7 (power), M5 FAST4 (125) (io), M8 FAST3 (134) (io), M11 VCCIO4 (power)
part B pins: A4 TDO (300) (out), A9 nCEO (291) (in), A10 TRST (290) (in), F4 CLKLK_FB2p (39) (in), F10 MSEL1 (211) (in), F11 MSEL0 (212) (in), G2 DCLK (44) (in), G3 DATA0 (43) (in), G9 CLKLK_ENA (209) (in), G10 nCONFIG (208) (in), H2 TDI (47) (in), H5 nCE (46) (in), J2 CLKLK_OUT2p (59) (out), M3 CONF_DONE (123) (io), M4 nSTATUS (124) (io), M9 TCK (135) (in), M10 TMS (136) (in)
part C pins: A1 GND (power), A6 GND (power), A7 VCCINT (power), A12 GND (power), B1 VCCINT (power), B12 VCCINT (power), D4 VCC_CKLK4 (31) (power), E1 GND (power), E2 GND_CKLK4 (32/33) (power), E12 GND (power), F1 VCCINT (power), F12 VCCINT (power), G1 GND (power), G5 GND_CKLK2 (49/50) (power), G6 VCC_CKLK2 (52) (power), G12 GND (power), H1 VCCINT (power), H3 GND_CKOUT2 (55) (power), H4 VCC_CKOUT2 (54) (power), H12 VCCINT (power), J1 GND (power), J12 GND (power), M1 GND (power), M6 GND (power), M7 VCCINT (power), M12 GND (power)